# Altium schematic symbol library CM4 IO_V1.10_Library.SchLib: 153 symbols (part 1 of 6)
Pins are listed as number, name and electrical type; pins without a type are passive.

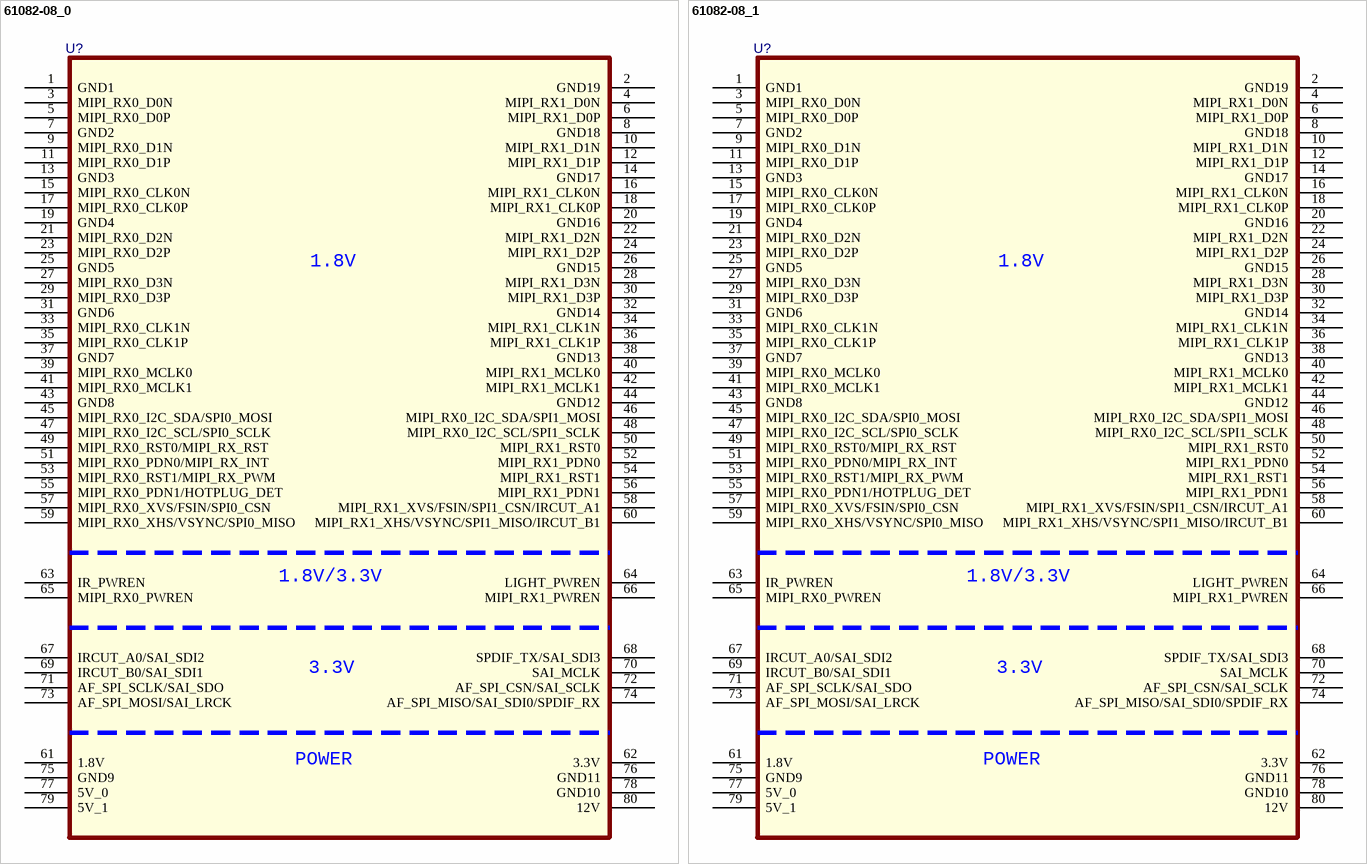
[diagram p0: symbols 61082-08_0 to 61082-08_1]

## 61082-08_0
designator U?
pins: 1 GND1, 2 GND19, 3 MIPI_RX0_D0N, 4 MIPI_RX1_D0N, 5 MIPI_RX0_D0P, 6 MIPI_RX1_D0P, 7 GND2, 8 GND18, 9 MIPI_RX0_D1N, 10 MIPI_RX1_D1N, 11 MIPI_RX0_D1P, 12 MIPI_RX1_D1P, 13 GND3, 14 GND17, 15 MIPI_RX0_CLK0N, 16 MIPI_RX1_CLK0N, 17 MIPI_RX0_CLK0P, 18 MIPI_RX1_CLK0P, 19 GND4, 20 GND16, 21 MIPI_RX0_D2N, 22 MIPI_RX1_D2N, 23 MIPI_RX0_D2P, 24 MIPI_RX1_D2P, 25 GND5, 26 GND15, 27 MIPI_RX0_D3N, 28 MIPI_RX1_D3N, 29 MIPI_RX0_D3P, 30 MIPI_RX1_D3P, 31 GND6, 32 GND14, 33 MIPI_RX0_CLK1N, 34 MIPI_RX1_CLK1N, 35 MIPI_RX0_CLK1P, 36 MIPI_RX1_CLK1P, 37 GND7, 38 GND13, 39 MIPI_RX0_MCLK0, 40 MIPI_RX1_MCLK0, 41 MIPI_RX0_MCLK1, 42 MIPI_RX1_MCLK1, 43 GND8, 44 GND12, 45 MIPI_RX0_I2C_SDA/SPI0_MOSI, 46 MIPI_RX0_I2C_SDA/SPI1_MOSI, 47 MIPI_RX0_I2C_SCL/SPI0_SCLK, 48 MIPI_RX0_I2C_SCL/SPI1_SCLK, 49 MIPI_RX0_RST0/MIPI_RX_RST, 50 MIPI_RX1_RST0, 51 MIPI_RX0_PDN0/MIPI_RX_INT, 52 MIPI_RX1_PDN0, 53 MIPI_RX0_RST1/MIPI_RX_PWM, 54 MIPI_RX1_RST1, 55 MIPI_RX0_PDN1/HOTPLUG_DET, 56 MIPI_RX1_PDN1, 57 MIPI_RX0_XVS/FSIN/SPI0_CSN, 58 MIPI_RX1_XVS/FSIN/SPI1_CSN/IRCUT_A1, 59 MIPI_RX0_XHS/VSYNC/SPI0_MISO, 60 MIPI_RX1_XHS/VSYNC/SPI1_MISO/IRCUT_B1, 61 1.8V, 62 3.3V, 63 IR_PWREN, 64 LIGHT_PWREN, 65 MIPI_RX0_PWREN, 66 MIPI_RX1_PWREN, 67 IRCUT_A0/SAI_SDI2, 68 SPDIF_TX/SAI_SDI3, 69 IRCUT_B0/SAI_SDI1, 70 SAI_MCLK, 71 AF_SPI_SCLK/SAI_SDO, 72 AF_SPI_CSN/SAI_SCLK, 73 AF_SPI_MOSI/SAI_LRCK, 74 AF_SPI_MISO/SAI_SDI0/SPDIF_RX, 75 GND9, 76 GND11, 77 5V_0, 78 GND10, 79 5V_1, 80 12V
text: 1.8V/3.3V; POWER

## 61082-08_1
designator U?
pins: 1 GND1, 2 GND19, 3 MIPI_RX0_D0N, 4 MIPI_RX1_D0N, 5 MIPI_RX0_D0P, 6 MIPI_RX1_D0P, 7 GND2, 8 GND18, 9 MIPI_RX0_D1N, 10 MIPI_RX1_D1N, 11 MIPI_RX0_D1P, 12 MIPI_RX1_D1P, 13 GND3, 14 GND17, 15 MIPI_RX0_CLK0N, 16 MIPI_RX1_CLK0N, 17 MIPI_RX0_CLK0P, 18 MIPI_RX1_CLK0P, 19 GND4, 20 GND16, 21 MIPI_RX0_D2N, 22 MIPI_RX1_D2N, 23 MIPI_RX0_D2P, 24 MIPI_RX1_D2P, 25 GND5, 26 GND15, 27 MIPI_RX0_D3N, 28 MIPI_RX1_D3N, 29 MIPI_RX0_D3P, 30 MIPI_RX1_D3P, 31 GND6, 32 GND14, 33 MIPI_RX0_CLK1N, 34 MIPI_RX1_CLK1N, 35 MIPI_RX0_CLK1P, 36 MIPI_RX1_CLK1P, 37 GND7, 38 GND13, 39 MIPI_RX0_MCLK0, 40 MIPI_RX1_MCLK0, 41 MIPI_RX0_MCLK1, 42 MIPI_RX1_MCLK1, 43 GND8, 44 GND12, 45 MIPI_RX0_I2C_SDA/SPI0_MOSI, 46 MIPI_RX0_I2C_SDA/SPI1_MOSI, 47 MIPI_RX0_I2C_SCL/SPI0_SCLK, 48 MIPI_RX0_I2C_SCL/SPI1_SCLK, 49 MIPI_RX0_RST0/MIPI_RX_RST, 50 MIPI_RX1_RST0, 51 MIPI_RX0_PDN0/MIPI_RX_INT, 52 MIPI_RX1_PDN0, 53 MIPI_RX0_RST1/MIPI_RX_PWM, 54 MIPI_RX1_RST1, 55 MIPI_RX0_PDN1/HOTPLUG_DET, 56 MIPI_RX1_PDN1, 57 MIPI_RX0_XVS/FSIN/SPI0_CSN, 58 MIPI_RX1_XVS/FSIN/SPI1_CSN/IRCUT_A1, 59 MIPI_RX0_XHS/VSYNC/SPI0_MISO, 60 MIPI_RX1_XHS/VSYNC/SPI1_MISO/IRCUT_B1, 61 1.8V, 62 3.3V, 63 IR_PWREN, 64 LIGHT_PWREN, 65 MIPI_RX0_PWREN, 66 MIPI_RX1_PWREN, 67 IRCUT_A0/SAI_SDI2, 68 SPDIF_TX/SAI_SDI3, 69 IRCUT_B0/SAI_SDI1, 70 SAI_MCLK, 71 AF_SPI_SCLK/SAI_SDO, 72 AF_SPI_CSN/SAI_SCLK, 73 AF_SPI_MOSI/SAI_LRCK, 74 AF_SPI_MISO/SAI_SDI0/SPDIF_RX, 75 GND9, 76 GND11, 77 5V_0, 78 GND10, 79 5V_1, 80 12V
text: 1.8V/3.3V; POWER

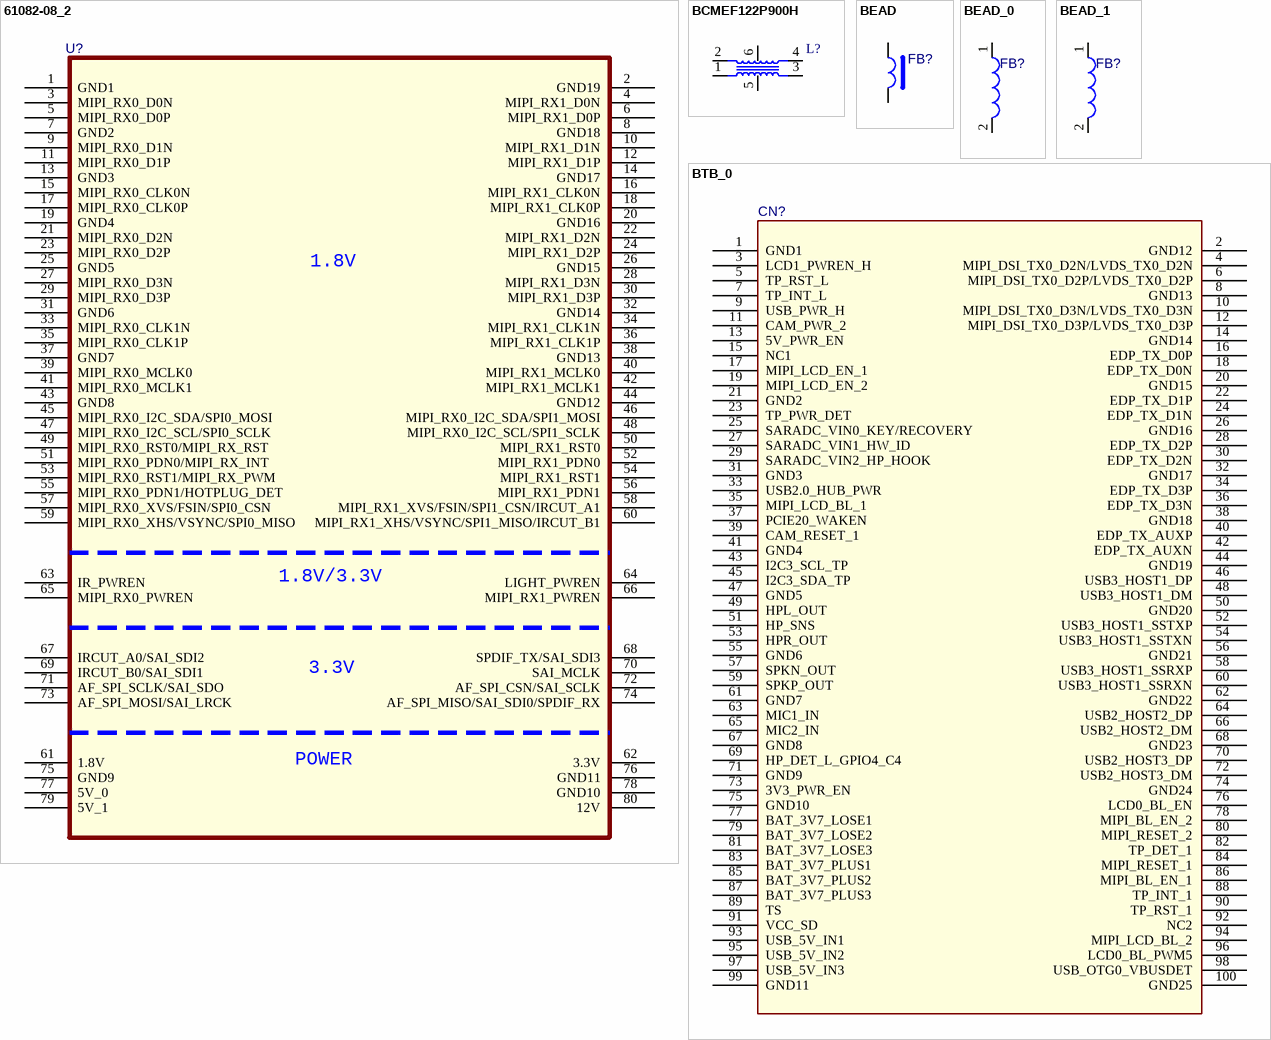
[diagram p1: symbols 61082-08_2 to BTB_0]

## 61082-08_2
designator U?
pins: 1 GND1, 2 GND19, 3 MIPI_RX0_D0N, 4 MIPI_RX1_D0N, 5 MIPI_RX0_D0P, 6 MIPI_RX1_D0P, 7 GND2, 8 GND18, 9 MIPI_RX0_D1N, 10 MIPI_RX1_D1N, 11 MIPI_RX0_D1P, 12 MIPI_RX1_D1P, 13 GND3, 14 GND17, 15 MIPI_RX0_CLK0N, 16 MIPI_RX1_CLK0N, 17 MIPI_RX0_CLK0P, 18 MIPI_RX1_CLK0P, 19 GND4, 20 GND16, 21 MIPI_RX0_D2N, 22 MIPI_RX1_D2N, 23 MIPI_RX0_D2P, 24 MIPI_RX1_D2P, 25 GND5, 26 GND15, 27 MIPI_RX0_D3N, 28 MIPI_RX1_D3N, 29 MIPI_RX0_D3P, 30 MIPI_RX1_D3P, 31 GND6, 32 GND14, 33 MIPI_RX0_CLK1N, 34 MIPI_RX1_CLK1N, 35 MIPI_RX0_CLK1P, 36 MIPI_RX1_CLK1P, 37 GND7, 38 GND13, 39 MIPI_RX0_MCLK0, 40 MIPI_RX1_MCLK0, 41 MIPI_RX0_MCLK1, 42 MIPI_RX1_MCLK1, 43 GND8, 44 GND12, 45 MIPI_RX0_I2C_SDA/SPI0_MOSI, 46 MIPI_RX0_I2C_SDA/SPI1_MOSI, 47 MIPI_RX0_I2C_SCL/SPI0_SCLK, 48 MIPI_RX0_I2C_SCL/SPI1_SCLK, 49 MIPI_RX0_RST0/MIPI_RX_RST, 50 MIPI_RX1_RST0, 51 MIPI_RX0_PDN0/MIPI_RX_INT, 52 MIPI_RX1_PDN0, 53 MIPI_RX0_RST1/MIPI_RX_PWM, 54 MIPI_RX1_RST1, 55 MIPI_RX0_PDN1/HOTPLUG_DET, 56 MIPI_RX1_PDN1, 57 MIPI_RX0_XVS/FSIN/SPI0_CSN, 58 MIPI_RX1_XVS/FSIN/SPI1_CSN/IRCUT_A1, 59 MIPI_RX0_XHS/VSYNC/SPI0_MISO, 60 MIPI_RX1_XHS/VSYNC/SPI1_MISO/IRCUT_B1, 61 1.8V, 62 3.3V, 63 IR_PWREN, 64 LIGHT_PWREN, 65 MIPI_RX0_PWREN, 66 MIPI_RX1_PWREN, 67 IRCUT_A0/SAI_SDI2, 68 SPDIF_TX/SAI_SDI3, 69 IRCUT_B0/SAI_SDI1, 70 SAI_MCLK, 71 AF_SPI_SCLK/SAI_SDO, 72 AF_SPI_CSN/SAI_SCLK, 73 AF_SPI_MOSI/SAI_LRCK, 74 AF_SPI_MISO/SAI_SDI0/SPDIF_RX, 75 GND9, 76 GND11, 77 5V_0, 78 GND10, 79 5V_1, 80 12V
text: 1.8V/3.3V; POWER

## BCMEF122P900H
designator L?
footprint CML_SM6_0D6_1D5
pins: 1 R1, 2 R2, 3 R4, 4 R3, 5, 6

## BEAD
designator FB?
pins: 1, 2

## BEAD_0
designator FB?
pins: 1, 2

## BEAD_1
designator FB?
pins: 1, 2

## BTB_0
designator CN?
pins: 1 GND1, 2 GND12, 3 LCD1_PWREN_H, 4 MIPI_DSI_TX0_D2N/LVDS_TX0_D2N, 5 TP_RST_L, 6 MIPI_DSI_TX0_D2P/LVDS_TX0_D2P, 7 TP_INT_L, 8 GND13, 9 USB_PWR_H, 10 MIPI_DSI_TX0_D3N/LVDS_TX0_D3N, 11 CAM_PWR_2, 12 MIPI_DSI_TX0_D3P/LVDS_TX0_D3P, 13 5V_PWR_EN, 14 GND14, 15 NC1, 16 EDP_TX_D0P, 17 MIPI_LCD_EN_1, 18 EDP_TX_D0N, 19 MIPI_LCD_EN_2, 20 GND15, 21 GND2, 22 EDP_TX_D1P, 23 TP_PWR_DET, 24 EDP_TX_D1N, 25 SARADC_VIN0_KEY/RECOVERY, 26 GND16, 27 SARADC_VIN1_HW_ID, 28 EDP_TX_D2P, 29 SARADC_VIN2_HP_HOOK, 30 EDP_TX_D2N, 31 GND3, 32 GND17, 33 USB2.0_HUB_PWR, 34 EDP_TX_D3P, 35 MIPI_LCD_BL_1, 36 EDP_TX_D3N, 37 PCIE20_WAKEN, 38 GND18, 39 CAM_RESET_1, 40 EDP_TX_AUXP, 41 GND4, 42 EDP_TX_AUXN, 43 I2C3_SCL_TP, 44 GND19, 45 I2C3_SDA_TP, 46 USB3_HOST1_DP, 47 GND5, 48 USB3_HOST1_DM, 49 HPL_OUT, 50 GND20, 51 HP_SNS, 52 USB3_HOST1_SSTXP, 53 HPR_OUT, 54 USB3_HOST1_SSTXN, 55 GND6, 56 GND21, 57 SPKN_OUT, 58 USB3_HOST1_SSRXP, 59 SPKP_OUT, 60 USB3_HOST1_SSRXN, 61 GND7, 62 GND22, 63 MIC1_IN, 64 USB2_HOST2_DP, 65 MIC2_IN, 66 USB2_HOST2_DM, 67 GND8, 68 GND23, 69 HP_DET_L_GPIO4_C4, 70 USB2_HOST3_DP, 71 GND9, 72 USB2_HOST3_DM, 73 3V3_PWR_EN, 74 GND24, 75 GND10, 76 LCD0_BL_EN, 77 BAT_3V7_LOSE1, 78 MIPI_BL_EN_2, 79 BAT_3V7_LOSE2, 80 MIPI_RESET_2, 81 BAT_3V7_LOSE3, 82 TP_DET_1, 83 BAT_3V7_PLUS1, 84 MIPI_RESET_1, 85 BAT_3V7_PLUS2, 86 MIPI_BL_EN_1, 87 BAT_3V7_PLUS3, 88 TP_INT_1, 89 TS, 90 TP_RST_1, 91 VCC_SD, 92 NC2, 93 USB_5V_IN1, 94 MIPI_LCD_BL_2, 95 USB_5V_IN2, 96 LCD0_BL_PWM5, 97 USB_5V_IN3, 98 USB_OTG0_VBUSDET, 99 GND11, 100 GND25

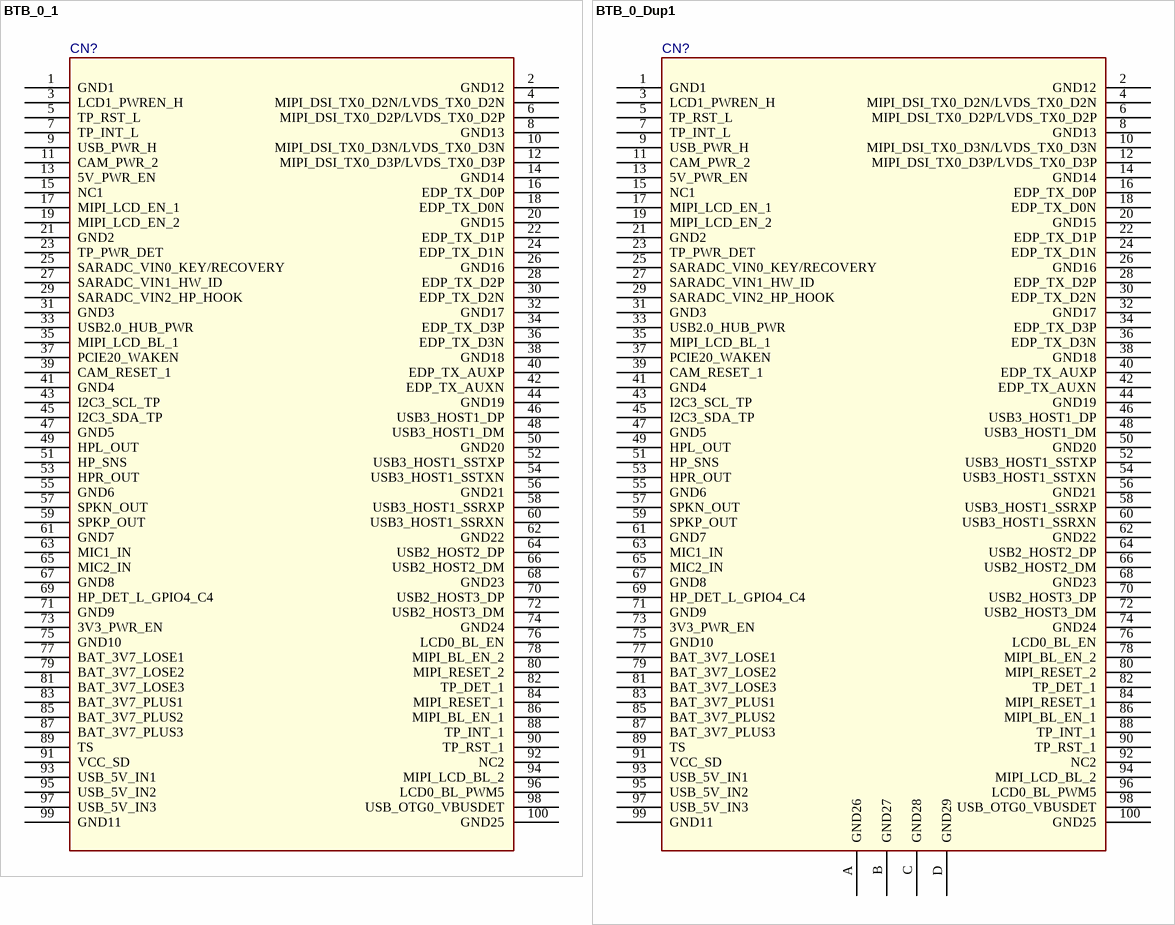
[diagram p2: symbols BTB_0_1 to BTB_0_Dup1]

## BTB_0_1
designator CN?
pins: 1 GND1, 2 GND12, 3 LCD1_PWREN_H, 4 MIPI_DSI_TX0_D2N/LVDS_TX0_D2N, 5 TP_RST_L, 6 MIPI_DSI_TX0_D2P/LVDS_TX0_D2P, 7 TP_INT_L, 8 GND13, 9 USB_PWR_H, 10 MIPI_DSI_TX0_D3N/LVDS_TX0_D3N, 11 CAM_PWR_2, 12 MIPI_DSI_TX0_D3P/LVDS_TX0_D3P, 13 5V_PWR_EN, 14 GND14, 15 NC1, 16 EDP_TX_D0P, 17 MIPI_LCD_EN_1, 18 EDP_TX_D0N, 19 MIPI_LCD_EN_2, 20 GND15, 21 GND2, 22 EDP_TX_D1P, 23 TP_PWR_DET, 24 EDP_TX_D1N, 25 SARADC_VIN0_KEY/RECOVERY, 26 GND16, 27 SARADC_VIN1_HW_ID, 28 EDP_TX_D2P, 29 SARADC_VIN2_HP_HOOK, 30 EDP_TX_D2N, 31 GND3, 32 GND17, 33 USB2.0_HUB_PWR, 34 EDP_TX_D3P, 35 MIPI_LCD_BL_1, 36 EDP_TX_D3N, 37 PCIE20_WAKEN, 38 GND18, 39 CAM_RESET_1, 40 EDP_TX_AUXP, 41 GND4, 42 EDP_TX_AUXN, 43 I2C3_SCL_TP, 44 GND19, 45 I2C3_SDA_TP, 46 USB3_HOST1_DP, 47 GND5, 48 USB3_HOST1_DM, 49 HPL_OUT, 50 GND20, 51 HP_SNS, 52 USB3_HOST1_SSTXP, 53 HPR_OUT, 54 USB3_HOST1_SSTXN, 55 GND6, 56 GND21, 57 SPKN_OUT, 58 USB3_HOST1_SSRXP, 59 SPKP_OUT, 60 USB3_HOST1_SSRXN, 61 GND7, 62 GND22, 63 MIC1_IN, 64 USB2_HOST2_DP, 65 MIC2_IN, 66 USB2_HOST2_DM, 67 GND8, 68 GND23, 69 HP_DET_L_GPIO4_C4, 70 USB2_HOST3_DP, 71 GND9, 72 USB2_HOST3_DM, 73 3V3_PWR_EN, 74 GND24, 75 GND10, 76 LCD0_BL_EN, 77 BAT_3V7_LOSE1, 78 MIPI_BL_EN_2, 79 BAT_3V7_LOSE2, 80 MIPI_RESET_2, 81 BAT_3V7_LOSE3, 82 TP_DET_1, 83 BAT_3V7_PLUS1, 84 MIPI_RESET_1, 85 BAT_3V7_PLUS2, 86 MIPI_BL_EN_1, 87 BAT_3V7_PLUS3, 88 TP_INT_1, 89 TS, 90 TP_RST_1, 91 VCC_SD, 92 NC2, 93 USB_5V_IN1, 94 MIPI_LCD_BL_2, 95 USB_5V_IN2, 96 LCD0_BL_PWM5, 97 USB_5V_IN3, 98 USB_OTG0_VBUSDET, 99 GND11, 100 GND25

## BTB_0_Dup1
designator CN?
pins: 1 GND1, 2 GND12, 3 LCD1_PWREN_H, 4 MIPI_DSI_TX0_D2N/LVDS_TX0_D2N, 5 TP_RST_L, 6 MIPI_DSI_TX0_D2P/LVDS_TX0_D2P, 7 TP_INT_L, 8 GND13, 9 USB_PWR_H, 10 MIPI_DSI_TX0_D3N/LVDS_TX0_D3N, 11 CAM_PWR_2, 12 MIPI_DSI_TX0_D3P/LVDS_TX0_D3P, 13 5V_PWR_EN, 14 GND14, 15 NC1, 16 EDP_TX_D0P, 17 MIPI_LCD_EN_1, 18 EDP_TX_D0N, 19 MIPI_LCD_EN_2, 20 GND15, 21 GND2, 22 EDP_TX_D1P, 23 TP_PWR_DET, 24 EDP_TX_D1N, 25 SARADC_VIN0_KEY/RECOVERY, 26 GND16, 27 SARADC_VIN1_HW_ID, 28 EDP_TX_D2P, 29 SARADC_VIN2_HP_HOOK, 30 EDP_TX_D2N, 31 GND3, 32 GND17, 33 USB2.0_HUB_PWR, 34 EDP_TX_D3P, 35 MIPI_LCD_BL_1, 36 EDP_TX_D3N, 37 PCIE20_WAKEN, 38 GND18, 39 CAM_RESET_1, 40 EDP_TX_AUXP, 41 GND4, 42 EDP_TX_AUXN, 43 I2C3_SCL_TP, 44 GND19, 45 I2C3_SDA_TP, 46 USB3_HOST1_DP, 47 GND5, 48 USB3_HOST1_DM, 49 HPL_OUT, 50 GND20, 51 HP_SNS, 52 USB3_HOST1_SSTXP, 53 HPR_OUT, 54 USB3_HOST1_SSTXN, 55 GND6, 56 GND21, 57 SPKN_OUT, 58 USB3_HOST1_SSRXP, 59 SPKP_OUT, 60 USB3_HOST1_SSRXN, 61 GND7, 62 GND22, 63 MIC1_IN, 64 USB2_HOST2_DP, 65 MIC2_IN, 66 USB2_HOST2_DM, 67 GND8, 68 GND23, 69 HP_DET_L_GPIO4_C4, 70 USB2_HOST3_DP, 71 GND9, 72 USB2_HOST3_DM, 73 3V3_PWR_EN, 74 GND24, 75 GND10, 76 LCD0_BL_EN, 77 BAT_3V7_LOSE1, 78 MIPI_BL_EN_2, 79 BAT_3V7_LOSE2, 80 MIPI_RESET_2, 81 BAT_3V7_LOSE3, 82 TP_DET_1, 83 BAT_3V7_PLUS1, 84 MIPI_RESET_1, 85 BAT_3V7_PLUS2, 86 MIPI_BL_EN_1, 87 BAT_3V7_PLUS3, 88 TP_INT_1, 89 TS, 90 TP_RST_1, 91 VCC_SD, 92 NC2, 93 USB_5V_IN1, 94 MIPI_LCD_BL_2, 95 USB_5V_IN2, 96 LCD0_BL_PWM5, 97 USB_5V_IN3, 98 USB_OTG0_VBUSDET, 99 GND11, 100 GND25, A GND26, B GND27, C GND28, D GND29

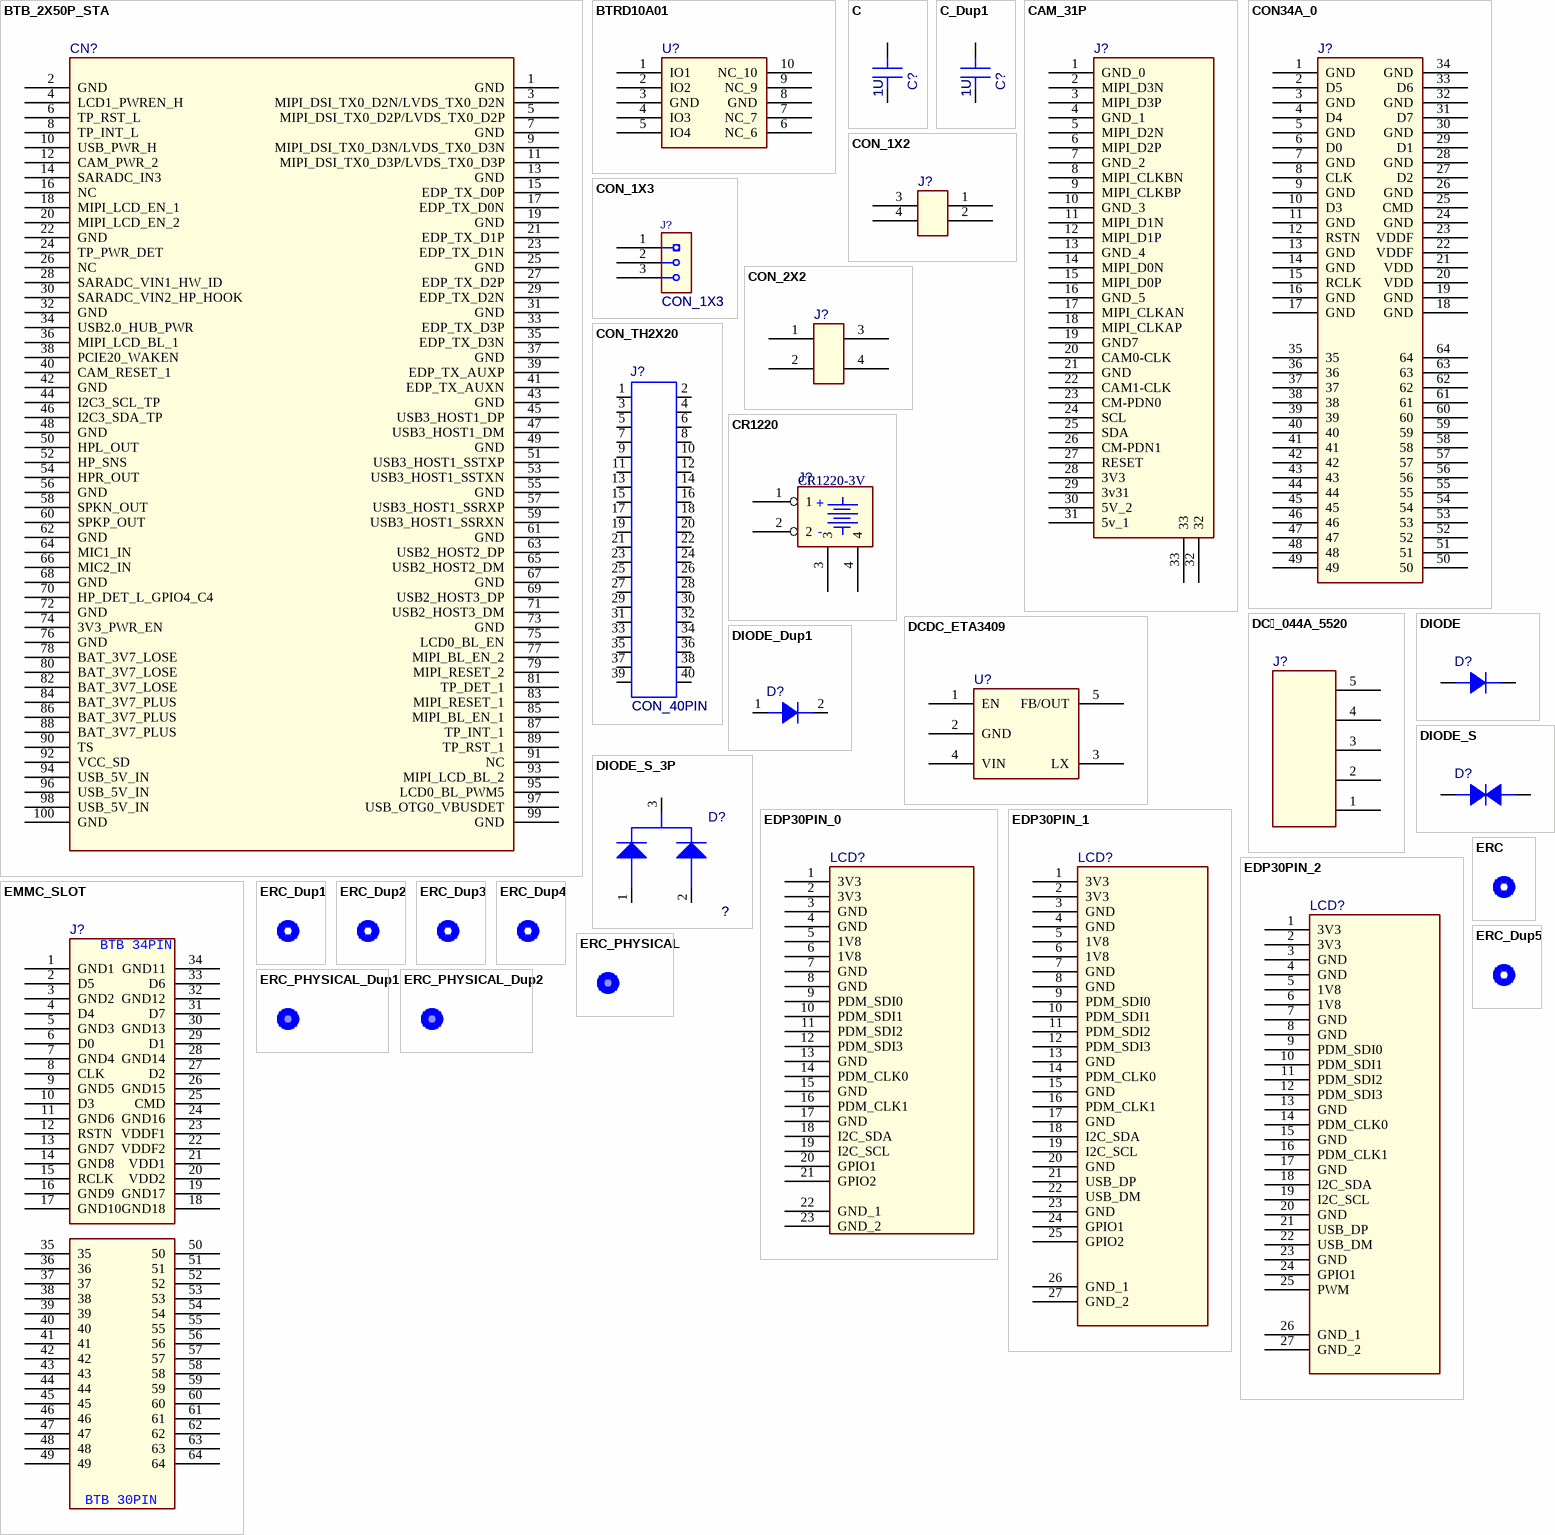
[diagram p3: symbols BTB_2X50P_STA to ERC_PHYSICAL_Dup2]

## BTB_2X50P_STA
designator CN?
pins: 1 GND, 2 GND, 3 MIPI_DSI_TX0_D2N/LVDS_TX0_D2N, 4 LCD1_PWREN_H, 5 MIPI_DSI_TX0_D2P/LVDS_TX0_D2P, 6 TP_RST_L, 7 GND, 8 TP_INT_L, 9 MIPI_DSI_TX0_D3N/LVDS_TX0_D3N, 10 USB_PWR_H, 11 MIPI_DSI_TX0_D3P/LVDS_TX0_D3P, 12 CAM_PWR_2, 13 GND, 14 SARADC_IN3, 15 EDP_TX_D0P, 16 NC, 17 EDP_TX_D0N, 18 MIPI_LCD_EN_1, 19 GND, 20 MIPI_LCD_EN_2, 21 EDP_TX_D1P, 22 GND, 23 EDP_TX_D1N, 24 TP_PWR_DET, 25 GND, 26 NC, 27 EDP_TX_D2P, 28 SARADC_VIN1_HW_ID, 29 EDP_TX_D2N, 30 SARADC_VIN2_HP_HOOK, 31 GND, 32 GND, 33 EDP_TX_D3P, 34 USB2.0_HUB_PWR, 35 EDP_TX_D3N, 36 MIPI_LCD_BL_1, 37 GND, 38 PCIE20_WAKEN, 39 EDP_TX_AUXP, 40 CAM_RESET_1, 41 EDP_TX_AUXN, 42 GND, 43 GND, 44 I2C3_SCL_TP, 45 USB3_HOST1_DP, 46 I2C3_SDA_TP, 47 USB3_HOST1_DM, 48 GND, 49 GND, 50 HPL_OUT, 51 USB3_HOST1_SSTXP, 52 HP_SNS, 53 USB3_HOST1_SSTXN, 54 HPR_OUT, 55 GND, 56 GND, 57 USB3_HOST1_SSRXP, 58 SPKN_OUT, 59 USB3_HOST1_SSRXN, 60 SPKP_OUT, 61 GND, 62 GND, 63 USB2_HOST2_DP, 64 MIC1_IN, 65 USB2_HOST2_DM, 66 MIC2_IN, 67 GND, 68 GND, 69 USB2_HOST3_DP, 70 HP_DET_L_GPIO4_C4, 71 USB2_HOST3_DM, 72 GND, 73 GND, 74 3V3_PWR_EN, 75 LCD0_BL_EN, 76 GND, 77 MIPI_BL_EN_2, 78 BAT_3V7_LOSE, 79 MIPI_RESET_2, 80 BAT_3V7_LOSE, 81 TP_DET_1, 82 BAT_3V7_LOSE, 83 MIPI_RESET_1, 84 BAT_3V7_PLUS, 85 MIPI_BL_EN_1, 86 BAT_3V7_PLUS, 87 TP_INT_1, 88 BAT_3V7_PLUS, 89 TP_RST_1, 90 TS, 91 NC, 92 VCC_SD, 93 MIPI_LCD_BL_2, 94 USB_5V_IN, 95 LCD0_BL_PWM5, 96 USB_5V_IN, 97 USB_OTG0_VBUSDET, 98 USB_5V_IN, 99 GND, 100 GND

## BTRD10A01
designator U?
pins: 1 IO1, 2 IO2, 3 GND (power), 4 IO3, 5 IO4, 6 NC_6, 7 NC_7, 8 GND (power), 9 NC_9, 10 NC_10

## C
designator C?, comment 1U
PARTS: 1; OriginalSymbolOrigin: (0,30); PKG_TYPE: CAP2-100-250; LEVEL: STD; PINSWAP: (A,B); Value: 1U
pins: 1 A, 2 B

## C_Dup1
designator C?, comment 1U
PARTS: 1; OriginalSymbolOrigin: (0,30); PKG_TYPE: CAP2-100-250; LEVEL: STD; PINSWAP: (A,B); Value: 1U
pins: 1, 2

## CAM_31P
designator J?
footprint FPC_31P_0d3_LIE
pins: 1 GND_0, 2 MIPI_D3N, 3 MIPI_D3P, 4 GND_1, 5 MIPI_D2N, 6 MIPI_D2P, 7 GND_2, 8 MIPI_CLKBN, 9 MIPI_CLKBP, 10 GND_3, 11 MIPI_D1N, 12 MIPI_D1P, 13 GND_4, 14 MIPI_D0N, 15 MIPI_D0P, 16 GND_5, 17 MIPI_CLKAN, 18 MIPI_CLKAP, 19 GND7, 20 CAM0-CLK, 21 GND, 22 CAM1-CLK, 23 CM-PDN0, 24 SCL, 25 SDA, 26 CM-PDN1, 27 RESET, 28 3V3, 29 3v31, 30 5V_2, 31 5v_1, 32, 33

## CON34A_0
designator J?
pins: 1 GND, 2 D5, 3 GND, 4 D4, 5 GND, 6 D0, 7 GND, 8 CLK, 9 GND, 10 D3, 11 GND, 12 RSTN, 13 GND, 14 GND, 15 RCLK, 16 GND, 17 GND, 18 GND, 19 GND, 20 VDD, 21 VDD, 22 VDDF, 23 VDDF, 24 GND, 25 CMD, 26 GND, 27 D2, 28 GND, 29 D1, 30 GND, 31 D7, 32 GND, 33 D6, 34 GND, 35, 36, 37, 38, 39, 40, 41, 42, 43, 44, 45, 46, 47, 48, 49, 50, 51, 52, 53, 54, 55, 56, 57, 58, 59, 60, 61, 62, 63, 64

## CON_1X2
designator J?
pins: 1, 2, 3, 4

## CON_1X3
designator J?
OriginalSymbolOrigin: (-50,50); ANGLE: ?; ASSEMBLY: ?; GENDER: ?; LATCHING: ?; MAX_CURRENT: ?; MAX_VOLTAGE: ?; NV_NAME: ?; NV_PN: ?; PACK_TYPE: ?; PATH: ?; PITCH: ?; PLACEMENT_NOTE: ?; REFLOW: ?; SHROUDED: ?; SKU: COMMON; Value: CON_1X3
pins: 1, 2, 3

## CON_2X2
designator J?
pins: 1, 2, 3, 4

## CON_TH2X20
designator J?, comment CON_40PIN
OriginalSymbolOrigin: (-100,550); ANGLE: ?; ASSEMBLY: ?; GENDER: ?; LATCHING: ?; MAX_CURRENT: ?; MAX_VOLTAGE: ?; NV_NAME: ?; NV_PN: ?; PACK_TYPE: ?; PATH: ?; PITCH: ?; PLACEMENT_NOTE: ?; REFLOW: ?; SHROUDED: ?; SKU: COMMON; Value: CON_40PIN
footprint CON_TH20X2_2D54_STA
pins: 1 (io), 2 (io), 3 (io), 4 (io), 5 (io), 6 (io), 7 (io), 8 (io), 9 (io), 10 (io), 11 (io), 12 (io), 13 (io), 14 (io), 15 (io), 16 (io), 17 (io), 18 (io), 19 (io), 20 (io), 21 (io), 22 (io), 23 (io), 24 (io), 25 (io), 26 (io), 27 (io), 28 (io), 29 (io), 30 (io), 31 (io), 32 (io), 33 (io), 34 (io), 35 (io), 36 (io), 37 (io), 38 (io), 39 (io), 40 (io)

## CR1220
designator J?, comment CR1220-3V
Value: CR1220-3V
footprint BAT_SM2_12X2
pins: 1, 2, 3, 4
text: +; -

## DC_044A_5520
designator J?
pins: 1, 2, 3, 4, 5

## DCDC_ETA3409
designator U?
pins: 1 EN, 2 GND, 3 LX, 4 VIN, 5 FB/OUT

## DIODE
designator D?
pins: 1 A, 2 K

## DIODE_Dup1
designator D?
pins: 1 A, 2 K

## DIODE_S
designator D?
pins: 1 ANODE, 2 CATHODE

## DIODE_S_3P
designator D?, comment ?
Value: ?
footprint 23ACA
pins: 1 A1, 2 A2, 3 C

## EDP30PIN_0
designator LCD?
footprint EDP30PIN
pins: 1 3V3, 2 3V3, 3 GND, 4 GND, 5 1V8, 6 1V8, 7 GND, 8 GND, 9 PDM_SDI0, 10 PDM_SDI1, 11 PDM_SDI2, 12 PDM_SDI3, 13 GND, 14 PDM_CLK0, 15 GND, 16 PDM_CLK1, 17 GND, 18 I2C_SDA, 19 I2C_SCL, 20 GPIO1, 21 GPIO2, 22 GND_1, 23 GND_2

## EDP30PIN_1
designator LCD?
footprint EDP30PIN
pins: 1 3V3, 2 3V3, 3 GND, 4 GND, 5 1V8, 6 1V8, 7 GND, 8 GND, 9 PDM_SDI0, 10 PDM_SDI1, 11 PDM_SDI2, 12 PDM_SDI3, 13 GND, 14 PDM_CLK0, 15 GND, 16 PDM_CLK1, 17 GND, 18 I2C_SDA, 19 I2C_SCL, 20 GND, 21 USB_DP, 22 USB_DM, 23 GND, 24 GPIO1, 25 GPIO2, 26 GND_1, 27 GND_2

## EDP30PIN_2
designator LCD?
footprint EDP30PIN
pins: 1 3V3, 2 3V3, 3 GND, 4 GND, 5 1V8, 6 1V8, 7 GND, 8 GND, 9 PDM_SDI0, 10 PDM_SDI1, 11 PDM_SDI2, 12 PDM_SDI3, 13 GND, 14 PDM_CLK0, 15 GND, 16 PDM_CLK1, 17 GND, 18 I2C_SDA, 19 I2C_SCL, 20 GND, 21 USB_DP, 22 USB_DM, 23 GND, 24 GPIO1, 25 PWM, 26 GND_1, 27 GND_2

## EMMC_SLOT
designator J?
footprint EMMC_SLOT_30P_34P
pins: 1 GND1, 2 D5, 3 GND2, 4 D4, 5 GND3, 6 D0, 7 GND4, 8 CLK, 9 GND5, 10 D3, 11 GND6, 12 RSTN, 13 GND7, 14 GND8, 15 RCLK, 16 GND9, 17 GND10, 18 GND18, 19 GND17, 20 VDD2, 21 VDD1, 22 VDDF2, 23 VDDF1, 24 GND16, 25 CMD, 26 GND15, 27 D2, 28 GND14, 29 D1, 30 GND13, 31 D7, 32 GND12, 33 D6, 34 GND11, 35, 36, 37, 38, 39, 40, 41, 42, 43, 44, 45, 46, 47, 48, 49, 50, 51, 52, 53, 54, 55, 56, 57, 58, 59, 60, 61, 62, 63, 64
text: BTB 34PIN; BTB 30PIN

## ERC
designator *  (value not drawn)  (graphical)

## ERC_Dup1
designator *  (value not drawn)  (graphical)

## ERC_Dup2
designator *  (value not drawn)  (graphical)

## ERC_Dup3
designator *  (value not drawn)  (graphical)

## ERC_Dup4
designator *  (value not drawn)  (graphical)

## ERC_Dup5
designator *  (value not drawn)  (graphical)

## ERC_PHYSICAL
designator *  (value not drawn)  (graphical)

## ERC_PHYSICAL_Dup1
designator *  (value not drawn)  (graphical)

## ERC_PHYSICAL_Dup2
designator *  (value not drawn)  (graphical)

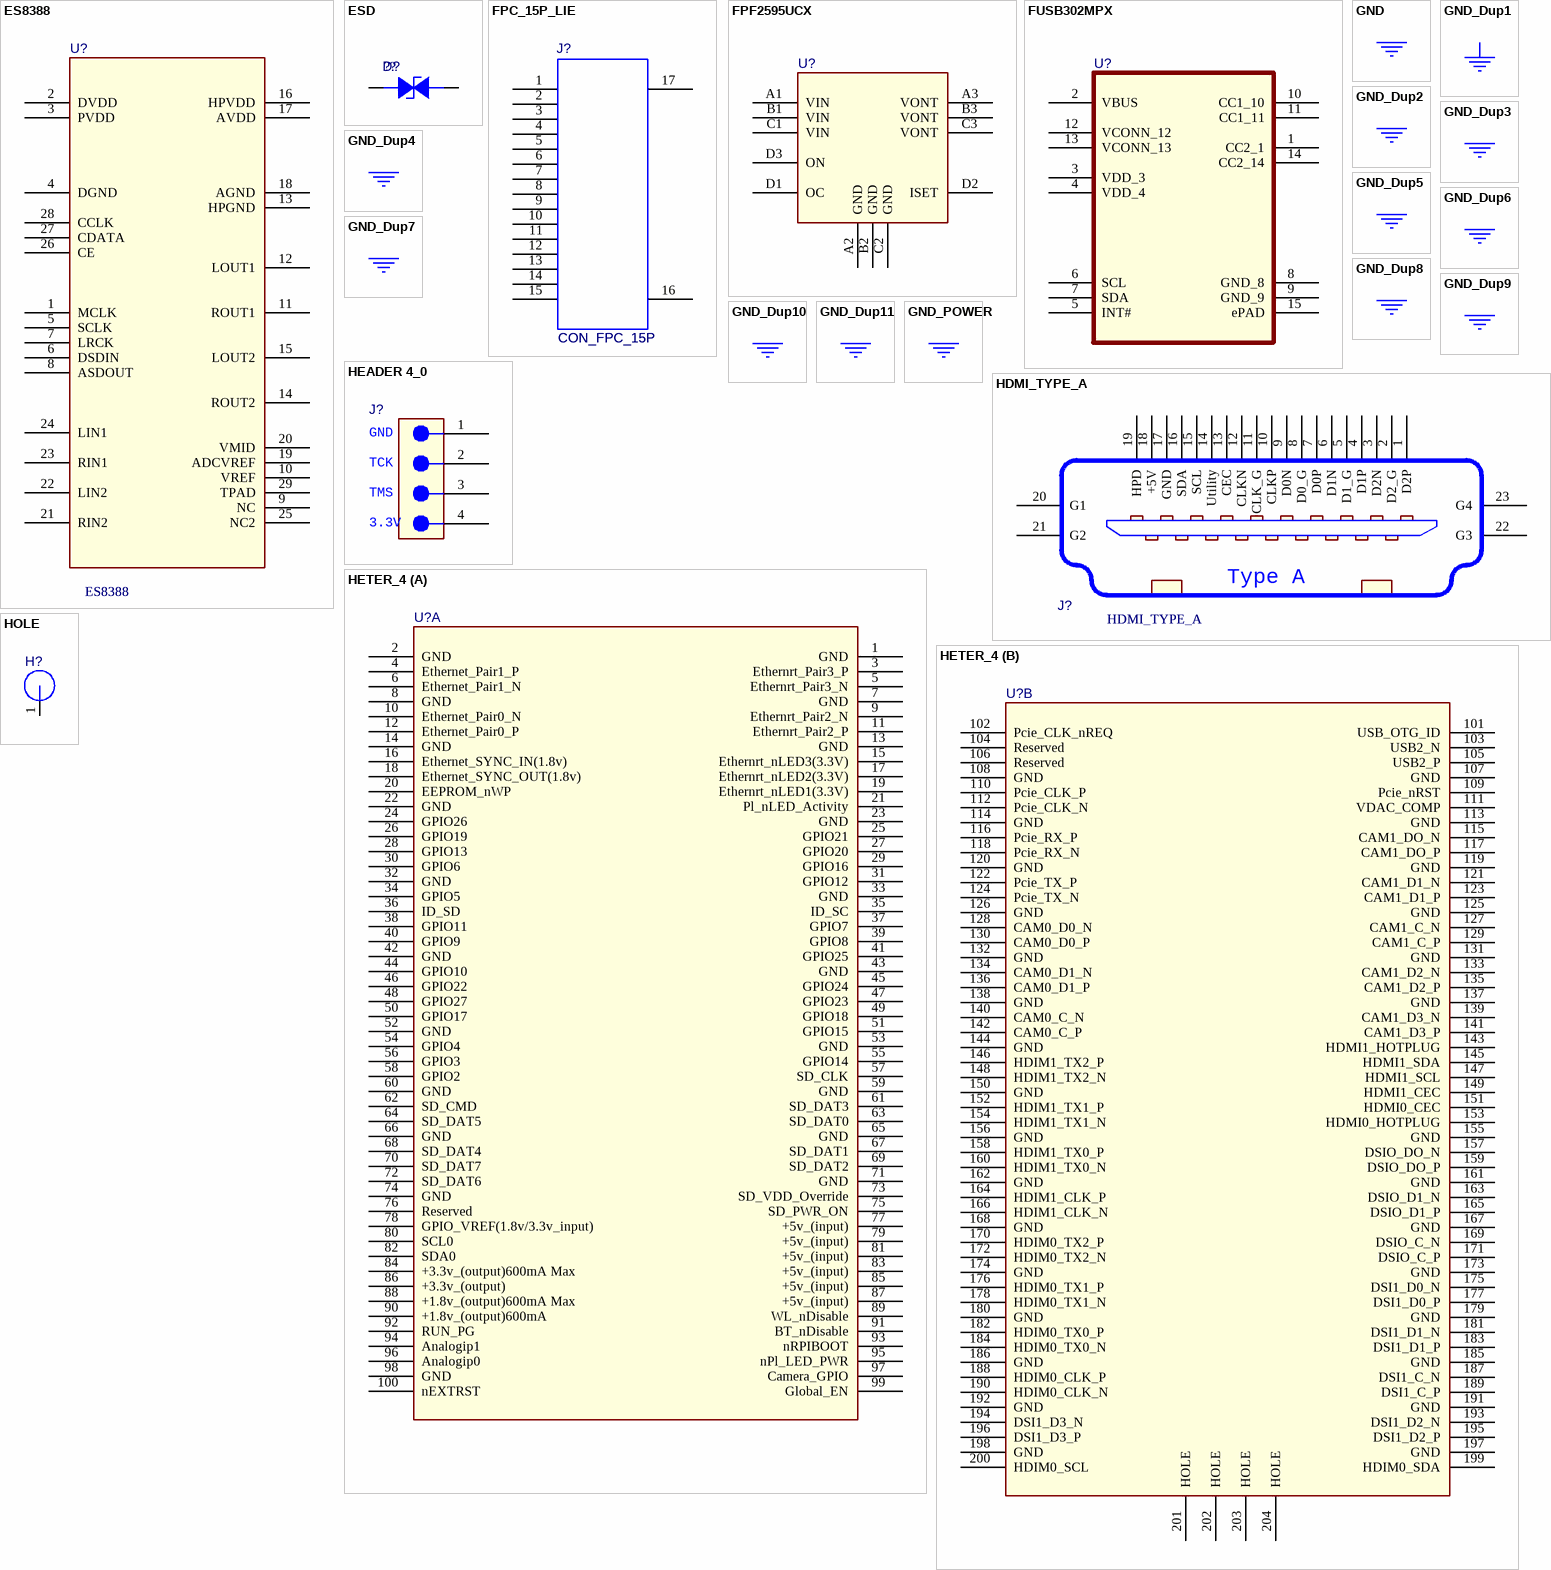
[diagram p4: symbols ES8388 to HOLE]

## ES8388
designator U?
Value: ES8388
footprint QFN28_4X4
pins: 1 MCLK, 2 DVDD, 3 PVDD, 4 DGND, 5 SCLK, 6 DSDIN, 7 LRCK, 8 ASDOUT, 9 NC, 10 VREF, 11 ROUT1, 12 LOUT1, 13 HPGND, 14 ROUT2, 15 LOUT2, 16 HPVDD, 17 AVDD, 18 AGND, 19 ADCVREF, 20 VMID, 21 RIN2, 22 LIN2, 23 RIN1, 24 LIN1, 25 NC2, 26 CE, 27 CDATA, 28 CCLK, 29 TPAD

## ESD
designator D?, comment ??
Parameter: ESD-台舟 ESD5341N-封装 esd0402; ID: DE-E0004; Value: ??
footprint DFN1006-2L
pins: 1 ANODE, 2 CATHODE

## FPC_15P_LIE
designator J?, comment CON_FPC_15P
OriginalSymbolOrigin: (-150,450); ANGLE: ?; ASSEMBLY: ?; EMI_GROUND_TAB: ?; GENDER: ?; LATCHING: ?; MAX_CURRENT: ?; MAX_VOLTAGE: ?; NV_NAME: ?; NV_PN: ?; PACK_TYPE: ?; PATH: ?; PITCH: ?; PLACEMENT_NOTE: ?; REFLOW: ?; SHIELDED: ?; SHROUDED: ?; SKU: COMMON; Value: CON_FPC_15P
footprint FPC_15_1D0_LIE
pins: 1, 2, 3, 4, 5, 6, 7, 8, 9, 10, 11, 12, 13, 14, 15, 16, 17

## FPF2595UCX
designator U?
pins: A1 VIN (power), A2 GND (power), A3 VONT (power), B1 VIN (power), B2 GND (power), B3 VONT (power), C1 VIN (power), C2 GND (power), C3 VONT (power), D1 OC, D2 ISET, D3 ON

## FUSB302MPX
designator U?
pins: 1 CC2_1, 2 VBUS, 3 VDD_3 (power), 4 VDD_4 (power), 5 INT#, 6 SCL, 7 SDA, 8 GND_8 (power), 9 GND_9 (power), 10 CC1_10, 11 CC1_11, 12 VCONN_12, 13 VCONN_13, 14 CC2_14, 15 ePAD (power)

## GND
designator *  (value not drawn)  (graphical)
pins: $PIN0 (power) hidden to $PIN0

## GND_Dup1
designator *  (value not drawn)  (graphical)
OriginalSymbolOrigin: (-10,0); HOTSPOTNAME: GND; SINGAL: GND; NETNAME: GND; PINORDER: GND; DEVICE: GND
pins: $PIN0 (power) hidden to $PIN0

## GND_Dup2
designator *  (value not drawn)  (graphical)
pins: $PIN0 (power) hidden to $PIN0

## GND_Dup3
designator *  (value not drawn)  (graphical)
pins: $PIN0 (power) hidden to $PIN0

## GND_Dup4
designator *  (value not drawn)  (graphical)
pins: $PIN0 (power) hidden to $PIN0

## GND_Dup5
designator *  (value not drawn)  (graphical)
OriginalSymbolOrigin: (-10,0)
pins: $PIN0 (power) hidden to $PIN0

## GND_Dup6
designator *  (value not drawn)  (graphical)
pins: $PIN0 (power) hidden to $PIN0

## GND_Dup7
designator *  (value not drawn)  (graphical)
pins: $PIN0 (power) hidden to $PIN0

## GND_Dup8
designator *  (value not drawn)  (graphical)
pins: $PIN0 (power) hidden to $PIN0

## GND_Dup9
designator *  (value not drawn)  (graphical)
pins: $PIN0 (power) hidden to $PIN0

## GND_Dup10
designator *  (value not drawn)  (graphical)
pins: $PIN0 (power) hidden to $PIN0

## GND_Dup11
designator *  (value not drawn)  (graphical)
pins: $PIN0 (power) hidden to $PIN0

## GND_POWER
designator *  (value not drawn)  (graphical)
pins: GND (power) hidden to GND

## HDMI_TYPE_A
designator J?
Parameter: 连接器-HDMI公母-19P/型号：10029449-001RLF-封装 hdmia19_hdmi_01a; Value: HDMI_TYPE_A
footprint CON_HDMI_TH_19P_STA
pins: 1 D2P, 2 D2_G, 3 D2N, 4 D1P, 5 D1_G, 6 D1N, 7 D0P, 8 D0_G, 9 D0N, 10 CLKP, 11 CLK_G, 12 CLKN, 13 CEC, 14 Utility, 15 SCL, 16 SDA, 17 GND, 18 +5V, 19 HPD, 20 G1, 21 G2, 22 G3, 23 G4
text: Type A

## HEADER 4_0
designator J?
pins: 1, 2 RX, 3, 4
text: GND; TCK; TMS; 3.3V

## HETER_4
designator U?
part A pins: 1 GND, 2 GND, 3 Ethernrt_Pair3_P, 4 Ethernet_Pair1_P, 5 Ethernrt_Pair3_N, 6 Ethernet_Pair1_N, 7 GND, 8 GND, 9 Ethernrt_Pair2_N, 10 Ethernet_Pair0_N, 11 Ethernrt_Pair2_P, 12 Ethernet_Pair0_P, 13 GND, 14 GND, 15 Ethernrt_nLED3(3.3V), 16 Ethernet_SYNC_IN(1.8v), 17 Ethernrt_nLED2(3.3V), 18 Ethernet_SYNC_OUT(1.8v), 19 Ethernrt_nLED1(3.3V), 20 EEPROM_nWP, 21 Pl_nLED_Activity, 22 GND, 23 GND, 24 GPIO26, 25 GPIO21, 26 GPIO19, 27 GPIO20, 28 GPIO13, 29 GPIO16, 30 GPIO6, 31 GPIO12, 32 GND, 33 GND, 34 GPIO5, 35 ID_SC, 36 ID_SD, 37 GPIO7, 38 GPIO11, 39 GPIO8, 40 GPIO9, 41 GPIO25, 42 GND, 43 GND, 44 GPIO10, 45 GPIO24, 46 GPIO22, 47 GPIO23, 48 GPIO27, 49 GPIO18, 50 GPIO17, 51 GPIO15, 52 GND, 53 GND, 54 GPIO4, 55 GPIO14, 56 GPIO3, 57 SD_CLK, 58 GPIO2, 59 GND, 60 GND, 61 SD_DAT3, 62 SD_CMD, 63 SD_DAT0, 64 SD_DAT5, 65 GND, 66 GND, 67 SD_DAT1, 68 SD_DAT4, 69 SD_DAT2, 70 SD_DAT7, 71 GND, 72 SD_DAT6, 73 SD_VDD_Override, 74 GND, 75 SD_PWR_ON, 76 Reserved, 77 +5v_(input), 78 GPIO_VREF(1.8v/3.3v_input), 79 +5v_(input), 80 SCL0, 81 +5v_(input), 82 SDA0, 83 +5v_(input), 84 +3.3v_(output)600mA Max, 85 +5v_(input), 86 +3.3v_(output), 87 +5v_(input), 88 +1.8v_(output)600mA Max, 89 WL_nDisable, 90 +1.8v_(output)600mA , 91 BT_nDisable, 92 RUN_PG, 93 nRPIBOOT, 94 Analogip1, 95 nPl_LED_PWR, 96 Analogip0, 97 Camera_GPIO, 98 GND, 99 Global_EN, 100 nEXTRST
part B pins: 101 USB_OTG_ID, 102 Pcie_CLK_nREQ, 103 USB2_N, 104 Reserved, 105 USB2_P, 106 Reserved, 107 GND, 108 GND, 109 Pcie_nRST, 110 Pcie_CLK_P, 111 VDAC_COMP, 112 Pcie_CLK_N, 113 GND, 114 GND, 115 CAM1_DO_N, 116 Pcie_RX_P, 117 CAM1_DO_P, 118 Pcie_RX_N, 119 GND, 120 GND, 121 CAM1_D1_N, 122 Pcie_TX_P, 123 CAM1_D1_P, 124 Pcie_TX_N, 125 GND, 126 GND, 127 CAM1_C_N, 128 CAM0_D0_N, 129 CAM1_C_P, 130 CAM0_D0_P, 131 GND, 132 GND, 133 CAM1_D2_N, 134 CAM0_D1_N, 135 CAM1_D2_P, 136 CAM0_D1_P, 137 GND, 138 GND, 139 CAM1_D3_N, 140 CAM0_C_N, 141 CAM1_D3_P, 142 CAM0_C_P, 143 HDMI1_HOTPLUG, 144 GND, 145 HDMI1_SDA, 146 HDIM1_TX2_P, 147 HDMI1_SCL, 148 HDIM1_TX2_N, 149 HDMI1_CEC, 150 GND, 151 HDMI0_CEC, 152 HDIM1_TX1_P, 153 HDMI0_HOTPLUG, 154 HDIM1_TX1_N, 155 GND, 156 GND, 157 DSIO_DO_N, 158 HDIM1_TX0_P, 159 DSIO_DO_P, 160 HDIM1_TX0_N, 161 GND, 162 GND, 163 DSIO_D1_N, 164 HDIM1_CLK_P, 165 DSIO_D1_P, 166 HDIM1_CLK_N, 167 GND, 168 GND, 169 DSIO_C_N, 170 HDIM0_TX2_P, 171 DSIO_C_P, 172 HDIM0_TX2_N, 173 GND, 174 GND, 175 DSI1_D0_N, 176 HDIM0_TX1_P, 177 DSI1_D0_P, 178 HDIM0_TX1_N, 179 GND, 180 GND, 181 DSI1_D1_N, 182 HDIM0_TX0_P, 183 DSI1_D1_P, 184 HDIM0_TX0_N, 185 GND, 186 GND, 187 DSI1_C_N, 188 HDIM0_CLK_P, 189 DSI1_C_P, 190 HDIM0_CLK_N, 191 GND, 192 GND, 193 DSI1_D2_N, 194 DSI1_D3_N, 195 DSI1_D2_P, 196 DSI1_D3_P, 197 GND, 198 GND, 199 HDIM0_SDA, 200 HDIM0_SCL, 201 HOLE, 202 HOLE, 203 HOLE, 204 HOLE

## HOLE
designator H?
footprint H3.8MM
pins: 1

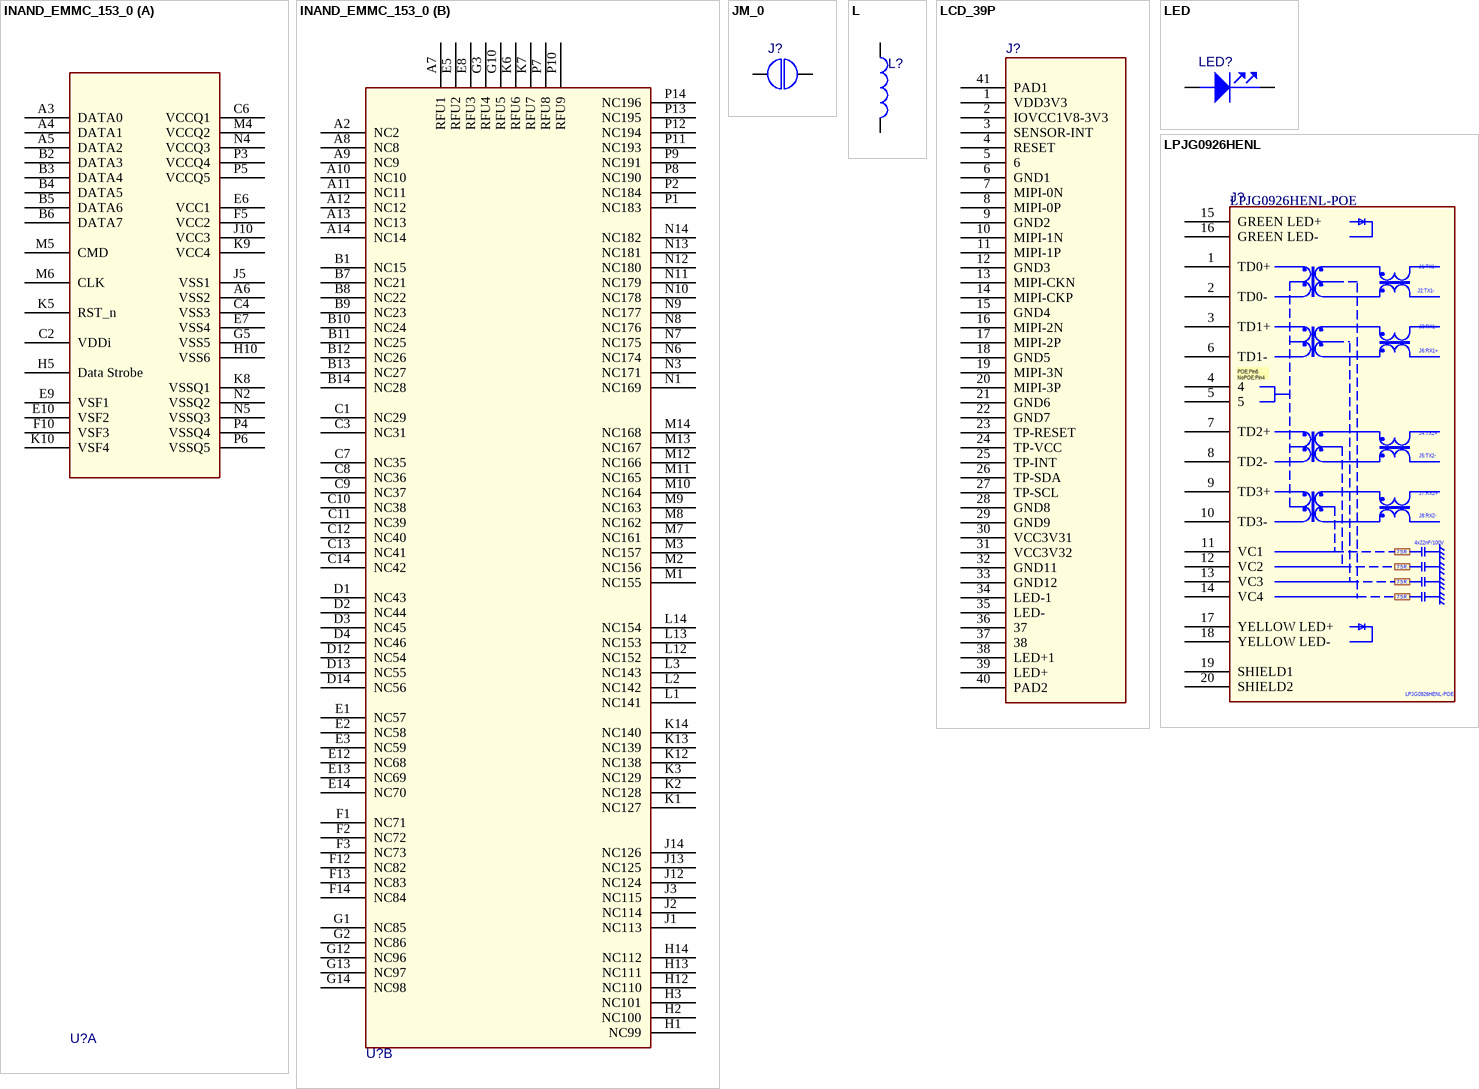
[diagram p5: symbols INAND_EMMC_153_0 to LPJG0926HENL]

## INAND_EMMC_153_0
designator U?
part A pins: A3 DATA0, A4 DATA1, A5 DATA2, A6 VSS2, B2 DATA3, B3 DATA4, B4 DATA5, B5 DATA6, B6 DATA7, C2 VDDi, C4 VSS3, C6 VCCQ1, E6 VCC1, E7 VSS4, E9 VSF1, E10 VSF2, F5 VCC2, F10 VSF3, G5 VSS5, H5 Data Strobe, H10 VSS6, J5 VSS1, J10 VCC3, K5 RST_n, K8 VSSQ1, K9 VCC4, K10 VSF4, M4 VCCQ2, M5 CMD, M6 CLK, N2 VSSQ2, N4 VCCQ3, N5 VSSQ3, P3 VCCQ4, P4 VSSQ4, P5 VCCQ5, P6 VSSQ5
part B pins: A2 NC2, A7 RFU1, A8 NC8, A9 NC9, A10 NC10, A11 NC11, A12 NC12, A13 NC13, A14 NC14, B1 NC15, B7 NC21, B8 NC22, B9 NC23, B10 NC24, B11 NC25, B12 NC26, B13 NC27, B14 NC28, C1 NC29, C3 NC31, C7 NC35, C8 NC36, C9 NC37, C10 NC38, C11 NC39, C12 NC40, C13 NC41, C14 NC42, D1 NC43, D2 NC44, D3 NC45, D4 NC46, D12 NC54, D13 NC55, D14 NC56, E1 NC57, E2 NC58, E3 NC59, E5 RFU2, E8 RFU3, E12 NC68, E13 NC69, E14 NC70, F1 NC71, F2 NC72, F3 NC73, F12 NC82, F13 NC83, F14 NC84, G1 NC85, G2 NC86, G3 RFU4, G10 RFU5, G12 NC96, G13 NC97, G14 NC98, H1 NC99, H2 NC100, H3 NC101, H12 NC110, H13 NC111, H14 NC112, J1 NC113, J2 NC114, J3 NC115, J12 NC124, J13 NC125, J14 NC126, K1 NC127, K2 NC128, K3 NC129, K6 RFU6, K7 RFU7, K12 NC138, K13 NC139, K14 NC140, L1 NC141, L2 NC142, L3 NC143, L12 NC152, L13 NC153, L14 NC154, M1 NC155, M2 NC156, M3 NC157, M7 NC161, M8 NC162, M9 NC163, M10 NC164, M11 NC165, M12 NC166, M13 NC167, M14 NC168, N1 NC169, N3 NC171, N6 NC174, N7 NC175, N8 NC176, N9 NC177, N10 NC178, N11 NC179, N12 NC180, N13 NC181, N14 NC182, P1 NC183, P2 NC184, P7 RFU8, P8 NC190, P9 NC191, P10 RFU9, P11 NC193, P12 NC194, P13 NC195, P14 NC196

## JM_0
designator J?
footprint OPEN
pins: 1, 2

## L
designator L?
pins: 1, 2

## LCD_39P
designator J?
footprint FPC_39P_0D3_LIE
pins: 1 VDD3V3, 2 IOVCC1V8-3V3, 3 SENSOR-INT, 4 RESET, 5 6, 6 GND1, 7 MIPI-0N, 8 MIPI-0P, 9 GND2, 10 MIPI-1N, 11 MIPI-1P, 12 GND3, 13 MIPI-CKN, 14 MIPI-CKP, 15 GND4, 16 MIPI-2N, 17 MIPI-2P, 18 GND5, 19 MIPI-3N, 20 MIPI-3P, 21 GND6, 22 GND7, 23 TP-RESET, 24 TP-VCC, 25 TP-INT, 26 TP-SDA, 27 TP-SCL, 28 GND8, 29 GND9, 30 VCC3V31, 31 VCC3V32, 32 GND11, 33 GND12, 34 LED-1, 35 LED-, 36 37, 37 38, 38 LED+1, 39 LED+, 40 PAD2, 41 PAD1

## LED
designator LED?
pins: 1 ANODE, 2 CATHODE

## LPJG0926HENL
designator J?, comment LPJG0926HENL-POE
Parameter: 连接器-带POE功能的集成变压器RJ45; Value: LPJG0926HENL-POE
footprint RJ45_LED_TH22_LIE
pins: 1 TD0+, 2 TD0-, 3 TD1+, 4, 5, 6 TD1-, 7 TD2+, 8 TD2-, 9 TD3+, 10 TD3-, 11 VC1, 12 VC2, 13 VC3, 14 VC4, 15 GREEN LED+, 16 GREEN LED-, 17 YELLOW LED+, 18 YELLOW LED-, 19 SHIELD1, 20 SHIELD2
text: J1:TX1+; J2:TX1-; J3:RX1+; J6:RX1+; POE:Pin6 / NoPOE:Pin4; J4:TX2+; J5:TX2-; J7:RX2+; J8:RX2-; 4x22nF/100V; 75R

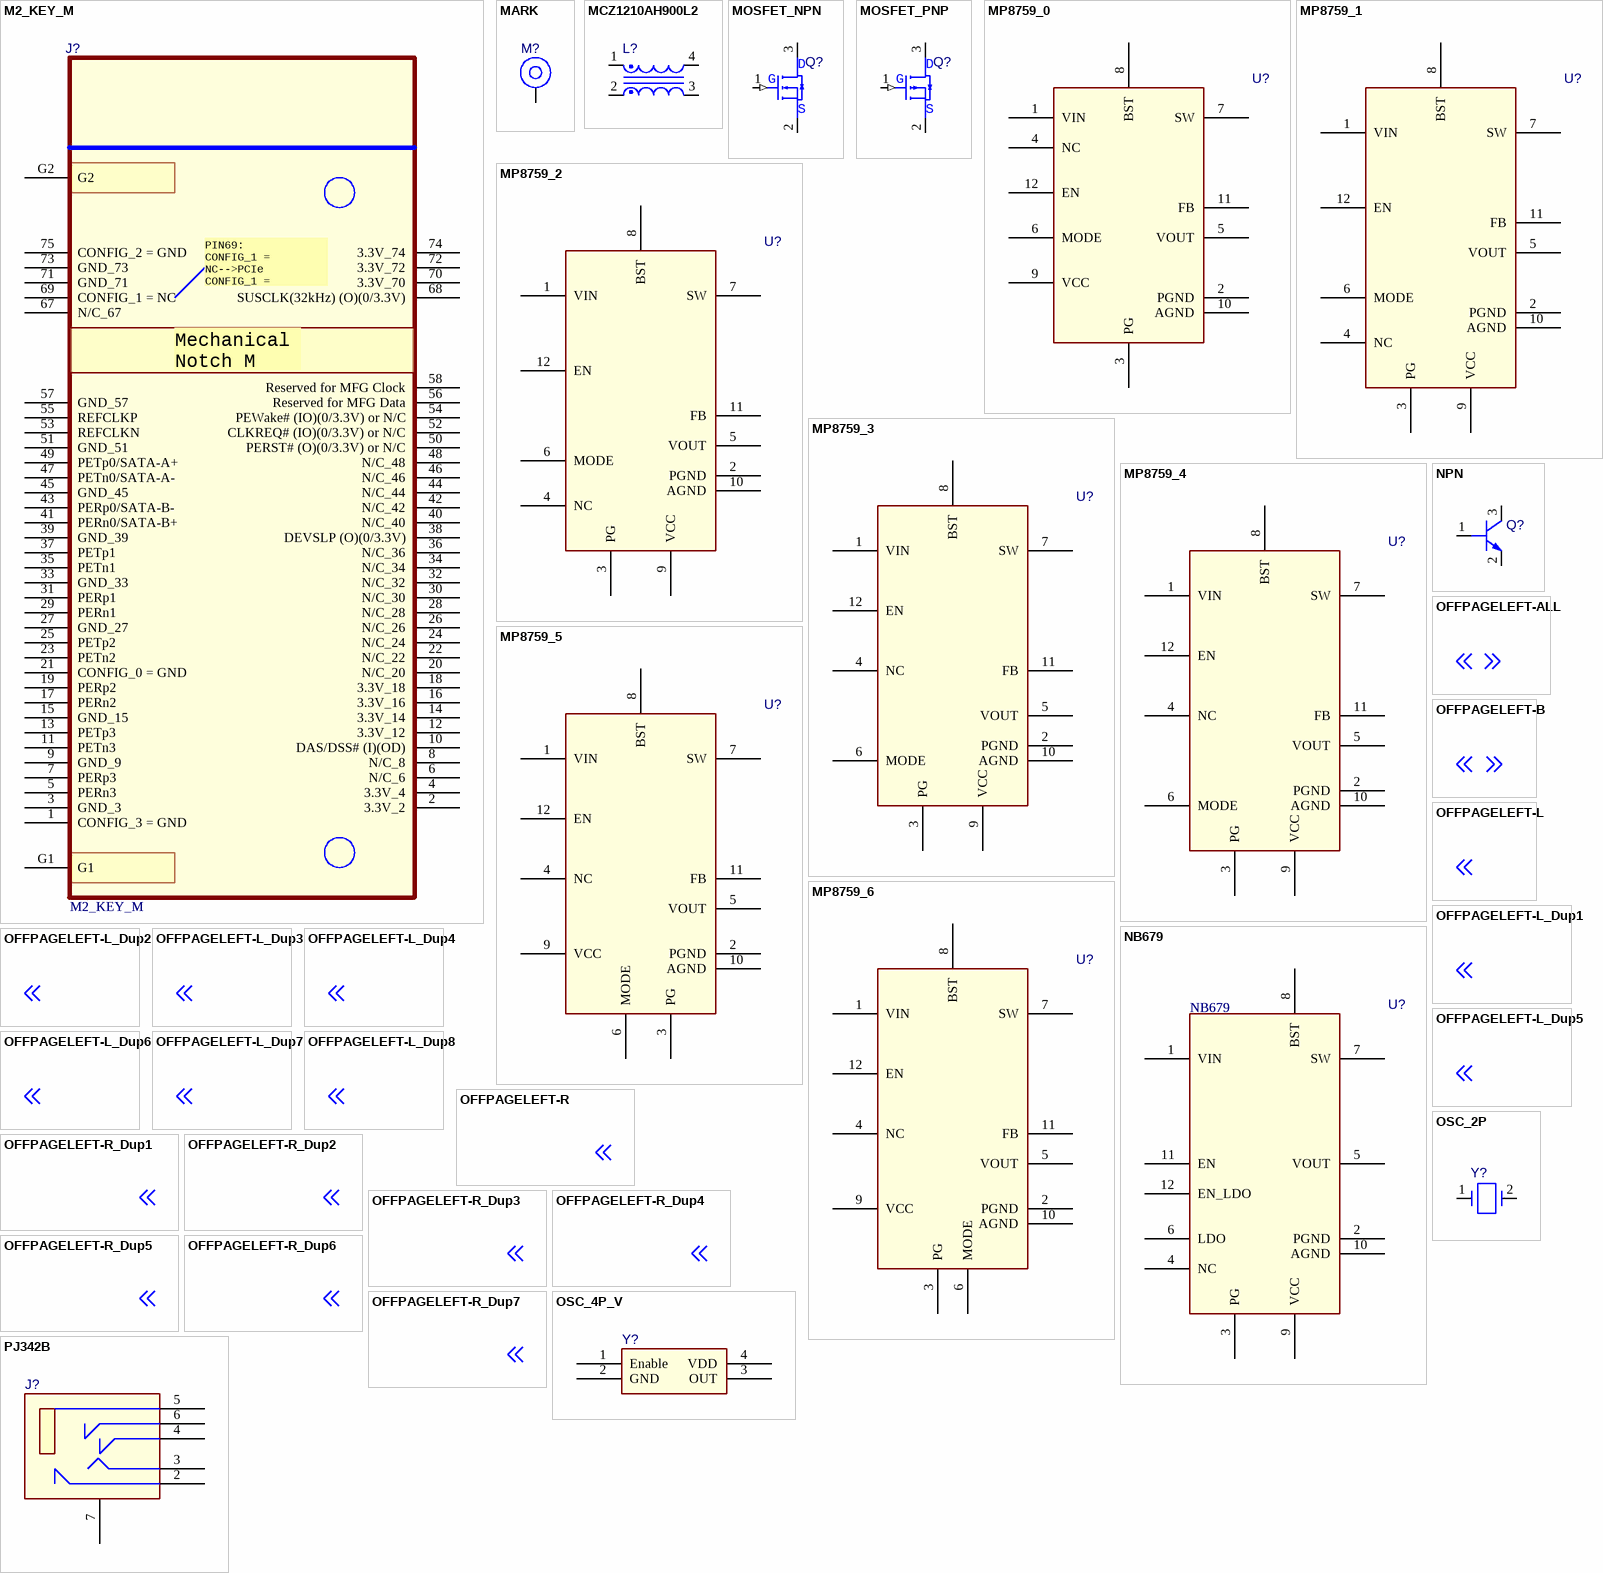
[diagram p6: symbols M2_KEY_M to PJ342B]

## M2_KEY_M
designator J?
Parameter: 连接器-比派-封装 M2_KEY_M; Value: M2_KEY_M
footprint M2-M_KEY_SM_75_0D5
pins: 1 CONFIG_3 = GND, 2 3.3V_2, 3 GND_3, 4 3.3V_4, 5 PERn3, 6 N/C_6, 7 PERp3, 8 N/C_8, 9 GND_9, 10 DAS/DSS# (I)(OD), 11 PETn3, 12 3.3V_12, 13 PETp3, 14 3.3V_14, 15 GND_15, 16 3.3V_16, 17 PERn2, 18 3.3V_18, 19 PERp2, 20 N/C_20, 21 CONFIG_0 = GND, 22 N/C_22, 23 PETn2, 24 N/C_24, 25 PETp2, 26 N/C_26, 27 GND_27, 28 N/C_28, 29 PERn1, 30 N/C_30, 31 PERp1, 32 N/C_32, 33 GND_33, 34 N/C_34, 35 PETn1, 36 N/C_36, 37 PETp1, 38 DEVSLP (O)(0/3.3V), 39 GND_39, 40 N/C_40, 41 PERn0/SATA-B+, 42 N/C_42, 43 PERp0/SATA-B-, 44 N/C_44, 45 GND_45, 46 N/C_46, 47 PETn0/SATA-A-, 48 N/C_48, 49 PETp0/SATA-A+, 50 PERST# (O)(0/3.3V) or N/C, 51 GND_51, 52 CLKREQ# (IO)(0/3.3V) or N/C, 53 REFCLKN, 54 PEWake# (IO)(0/3.3V) or N/C, 55 REFCLKP, 56 Reserved for MFG Data, 57 GND_57, 58 Reserved for MFG Clock, 67 N/C_67, 68 SUSCLK(32kHz) (O)(0/3.3V), 69 CONFIG_1 = NC, 70 3.3V_70, 71 GND_71, 72 3.3V_72, 73 GND_73, 74 3.3V_74, 75 CONFIG_2 = GND, G1, G2
text: PIN69: / CONFIG_1 = NC-->PCIe / CONFIG_1 = / GND-->SATA; Mechanical / Notch M

## MARK
designator M?
pins: 1

## MCZ1210AH900L2
designator L?
footprint LC1210
pins: 1, 2, 3, 4

## MOSFET_NPN
designator Q?
pins: 1 G (in), 2 S, 3 D

## MOSFET_PNP
designator Q?
pins: 1 G (in), 2 S, 3 D

## MP8759_0
designator U?
footprint QFN12_2R00X3R00X1R00
pins: 1 VIN, 2 PGND, 3 PG, 4 NC, 5 VOUT, 6 MODE, 7 SW, 8 BST, 9 VCC, 10 AGND, 11 FB, 12 EN

## MP8759_1
designator U?
footprint QFN12_2R00X3R00X1R00
pins: 1 VIN, 2 PGND, 3 PG, 4 NC, 5 VOUT, 6 MODE, 7 SW, 8 BST, 9 VCC, 10 AGND, 11 FB, 12 EN

## MP8759_2
designator U?
footprint QFN12_2R00X3R00X1R00
pins: 1 VIN, 2 PGND, 3 PG, 4 NC, 5 VOUT, 6 MODE, 7 SW, 8 BST, 9 VCC, 10 AGND, 11 FB, 12 EN

## MP8759_3
designator U?
footprint QFN12_2R00X3R00X1R00
pins: 1 VIN, 2 PGND, 3 PG, 4 NC, 5 VOUT, 6 MODE, 7 SW, 8 BST, 9 VCC, 10 AGND, 11 FB, 12 EN

## MP8759_4
designator U?
footprint QFN12_2R00X3R00X1R00
pins: 1 VIN, 2 PGND, 3 PG, 4 NC, 5 VOUT, 6 MODE, 7 SW, 8 BST, 9 VCC, 10 AGND, 11 FB, 12 EN

## MP8759_5
designator U?
footprint QFN12_2R00X3R00X1R00
pins: 1 VIN, 2 PGND, 3 PG, 4 NC, 5 VOUT, 6 MODE, 7 SW, 8 BST, 9 VCC, 10 AGND, 11 FB, 12 EN

## MP8759_6
designator U?
footprint QFN12_2R00X3R00X1R00
pins: 1 VIN, 2 PGND, 3 PG, 4 NC, 5 VOUT, 6 MODE, 7 SW, 8 BST, 9 VCC, 10 AGND, 11 FB, 12 EN

## NB679
designator U?
Value: NB679
footprint QFN12_0D5_2
pins: 1 VIN, 2 PGND, 3 PG, 4 NC, 5 VOUT, 6 LDO, 7 SW, 8 BST, 9 VCC, 10 AGND, 11 EN, 12 EN_LDO

## NPN
designator Q?
pins: 1 BASE, 2 EMITTER, 3 COLLECTOR

## OFFPAGELEFT-ALL
designator *  (value not drawn)  (graphical)
pins: $PIN0 (in) hidden

## OFFPAGELEFT-B
designator *  (value not drawn)  (graphical)
pins: $PIN0 (in) hidden

## OFFPAGELEFT-L
designator *  (value not drawn)  (graphical)
pins: $PIN0 (in) hidden

## OFFPAGELEFT-L_Dup1
designator *  (value not drawn)  (graphical)
pins: $PIN0 (in) hidden

## OFFPAGELEFT-L_Dup2
designator *  (value not drawn)  (graphical)
pins: $PIN0 (in) hidden

## OFFPAGELEFT-L_Dup3
designator *  (value not drawn)  (graphical)
pins: $PIN0 (in) hidden

## OFFPAGELEFT-L_Dup4
designator *  (value not drawn)  (graphical)
pins: $PIN0 (in) hidden

## OFFPAGELEFT-L_Dup5
designator *  (value not drawn)  (graphical)
pins: $PIN0 (in) hidden

## OFFPAGELEFT-L_Dup6
designator *  (value not drawn)  (graphical)
pins: $PIN0 (in) hidden

## OFFPAGELEFT-L_Dup7
designator *  (value not drawn)  (graphical)
pins: $PIN0 (in) hidden

## OFFPAGELEFT-L_Dup8
designator *  (value not drawn)  (graphical)
pins: $PIN0 (in) hidden

## OFFPAGELEFT-R
designator *  (value not drawn)  (graphical)
pins: $PIN0 (in) hidden

## OFFPAGELEFT-R_Dup1
designator *  (value not drawn)  (graphical)
pins: $PIN0 (in) hidden

## OFFPAGELEFT-R_Dup2
designator *  (value not drawn)  (graphical)
pins: $PIN0 (in) hidden

## OFFPAGELEFT-R_Dup3
designator *  (value not drawn)  (graphical)
pins: $PIN0 (in) hidden

## OFFPAGELEFT-R_Dup4
designator *  (value not drawn)  (graphical)
pins: $PIN0 (in) hidden

## OFFPAGELEFT-R_Dup5
designator *  (value not drawn)  (graphical)
pins: $PIN0 (in) hidden

## OFFPAGELEFT-R_Dup6
designator *  (value not drawn)  (graphical)
pins: $PIN0 (in) hidden

## OFFPAGELEFT-R_Dup7
designator *  (value not drawn)  (graphical)
pins: $PIN0 (in) hidden

## OSC_2P
designator Y?
pins: 1, 2

## OSC_4P_V
designator Y?
footprint Y-4-5_08-TXC-7W5
pins: 1 Enable, 2 GND, 3 OUT, 4 VDD

## PJ342B
designator J?
pins: 2 DH, 3 R, 4 L, 5 D, 6 HP, 7 NC2

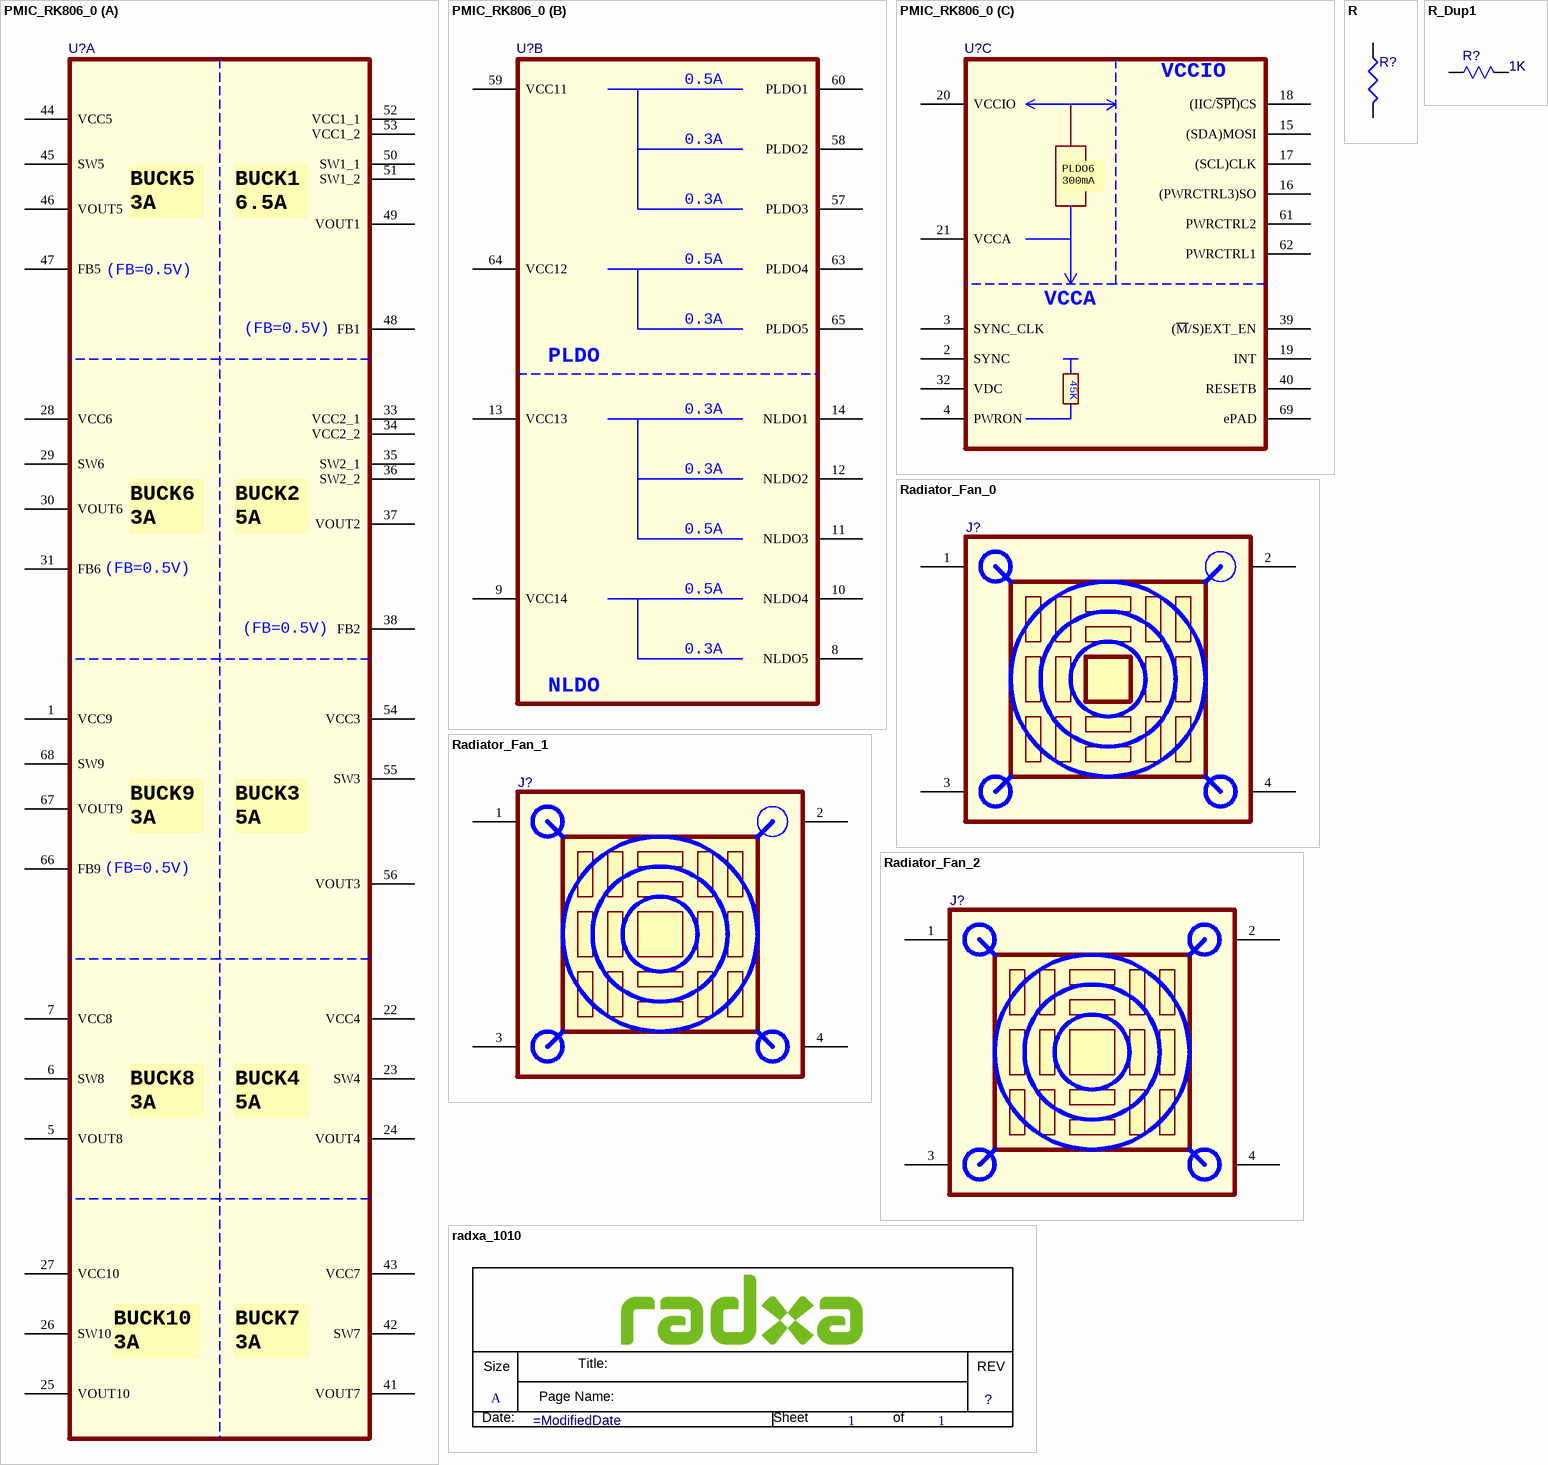
[diagram p7: symbols PMIC_RK806_0 to radxa_1010]

## PMIC_RK806_0
designator U?
footprint QFN68_7R00X7R00X0R80_T
part A pins: 1 VCC9, 5 VOUT8, 6 SW8, 7 VCC8, 22 VCC4, 23 SW4, 24 VOUT4, 25 VOUT10, 26 SW10, 27 VCC10, 28 VCC6, 29 SW6, 30 VOUT6, 31 FB6, 33 VCC2_1, 34 VCC2_2, 35 SW2_1, 36 SW2_2, 37 VOUT2, 38 FB2, 41 VOUT7, 42 SW7, 43 VCC7, 44 VCC5, 45 SW5, 46 VOUT5, 47 FB5, 48 FB1, 49 VOUT1, 50 SW1_1, 51 SW1_2, 52 VCC1_1, 53 VCC1_2, 54 VCC3, 55 SW3, 56 VOUT3, 66 FB9, 67 VOUT9, 68 SW9
part B pins: 8 NLDO5, 9 VCC14, 10 NLDO4, 11 NLDO3, 12 NLDO2, 13 VCC13, 14 NLDO1, 57 PLDO3, 58 PLDO2, 59 VCC11, 60 PLDO1, 63 PLDO4, 64 VCC12, 65 PLDO5
part C pins: 2 SYNC, 3 SYNC_CLK, 4 PWRON, 15 (SDA)MOSI, 16 (PWRCTRL3)SO, 17 (SCL)CLK, 18 (IIC/~{SPI})CS, 19 INT, 20 VCCIO, 21 VCCA, 32 VDC, 39 (~{M}/S)EXT_EN, 40 RESETB, 61 PWRCTRL2, 62 PWRCTRL1, 69 ePAD
part A text: BUCK5 / 3A; BUCK1 / 6.5A; (FB=0.5V); BUCK6 / 3A; BUCK2 / 5A; BUCK9 / 3A; BUCK3 / 5A; BUCK8 / 3A; BUCK4 / 5A; BUCK10 / 3A; BUCK7 / 3A
part B text: 0.5A; 0.3A; PLDO; NLDO
part C text: PLDO6 / 300mA; 45K

## R
designator R?
footprint R0402
pins: 1, 2

## R_Dup1
designator R?, comment 1K
PARTS: 1; LEVEL: STD; PKG_TYPE: 2; PINSWAP: (A,B); OriginalSymbolOrigin: (10,20); Value: 1K
pins: 1, 2

## Radiator_Fan_0
designator J?
pins: 1, 2, 3, 4

## Radiator_Fan_1
designator J?
pins: 1, 2, 3, 4

## Radiator_Fan_2
designator J?
pins: 1, 2, 3, 4

## radxa_1010
designator *  Page Size: A  Page Number: 1  (hidden comment: *)  (graphical)
Page Create Date: March  8, 1995; RevCode: ?; Page Count: 1; Page Modify Date: =ModifiedDate
text: Title:; Size; REV; Page Name:; Date:; Sheet; of

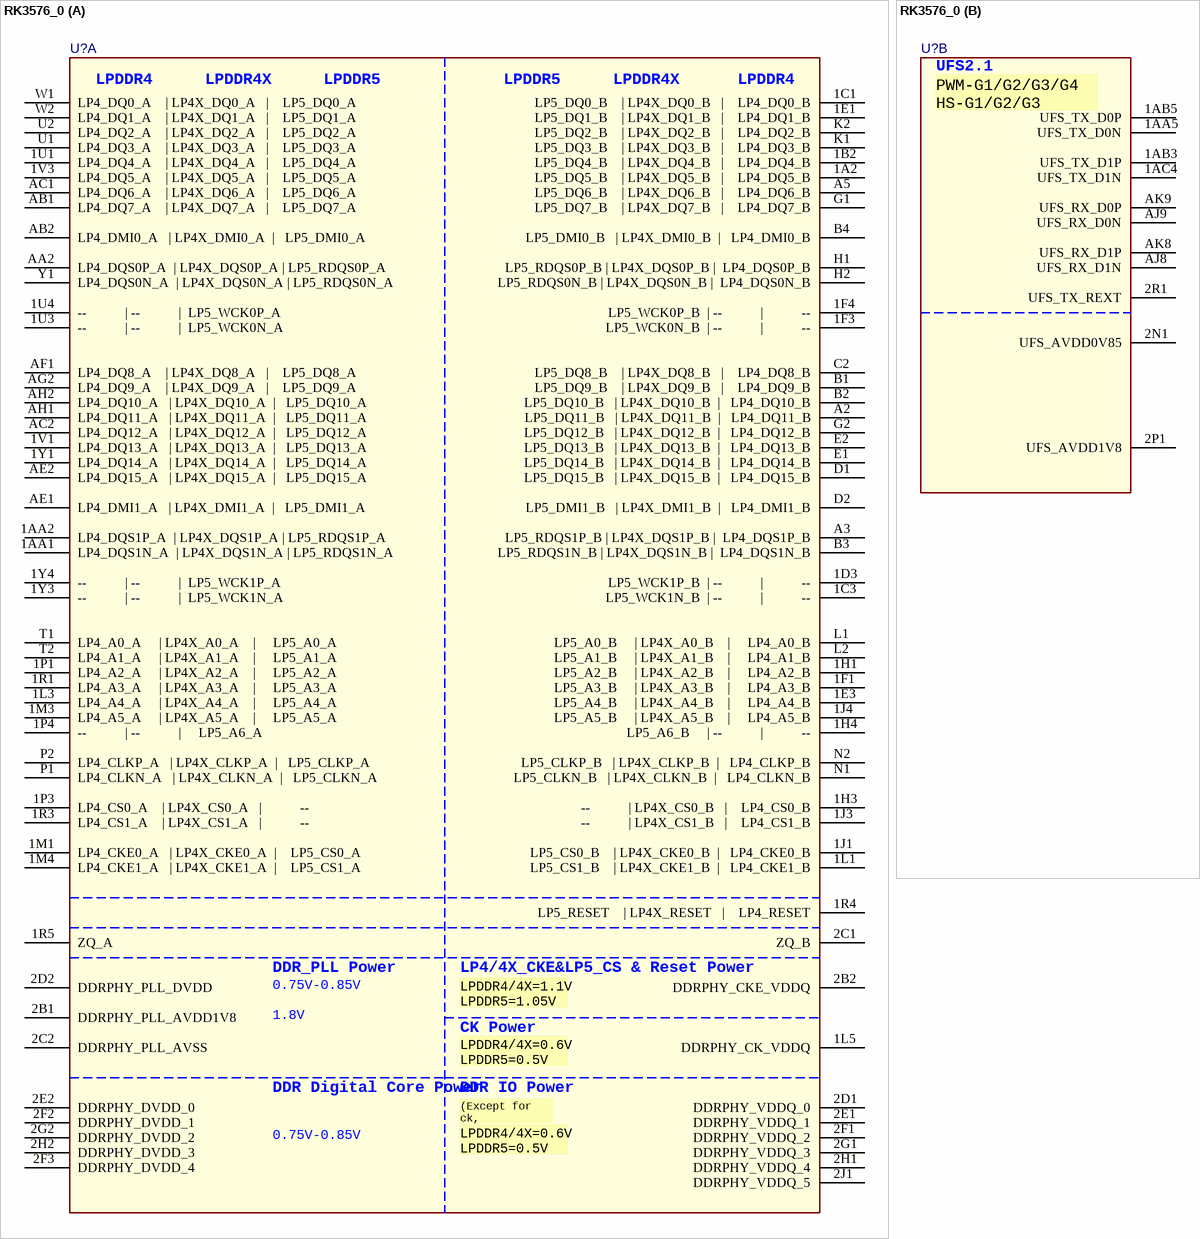
[diagram p8: symbol RK3576_0]

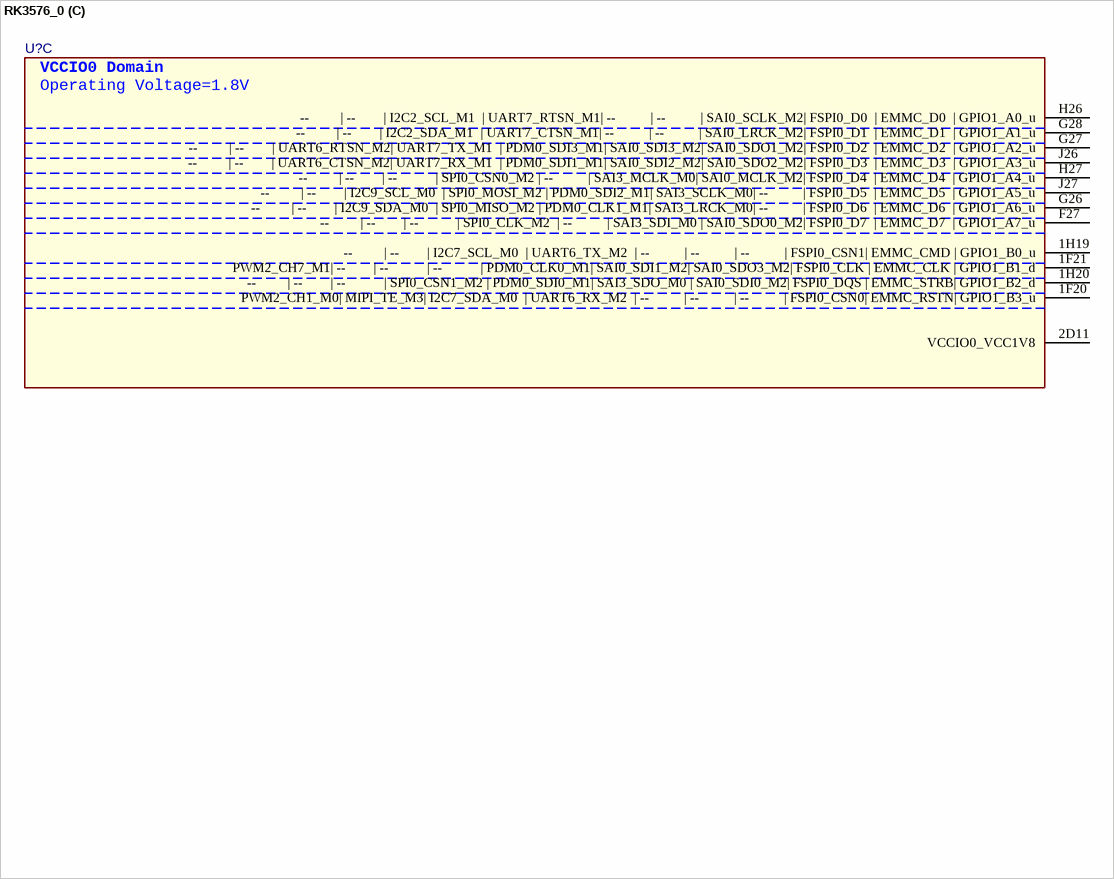
[diagram p9: symbol RK3576_0]

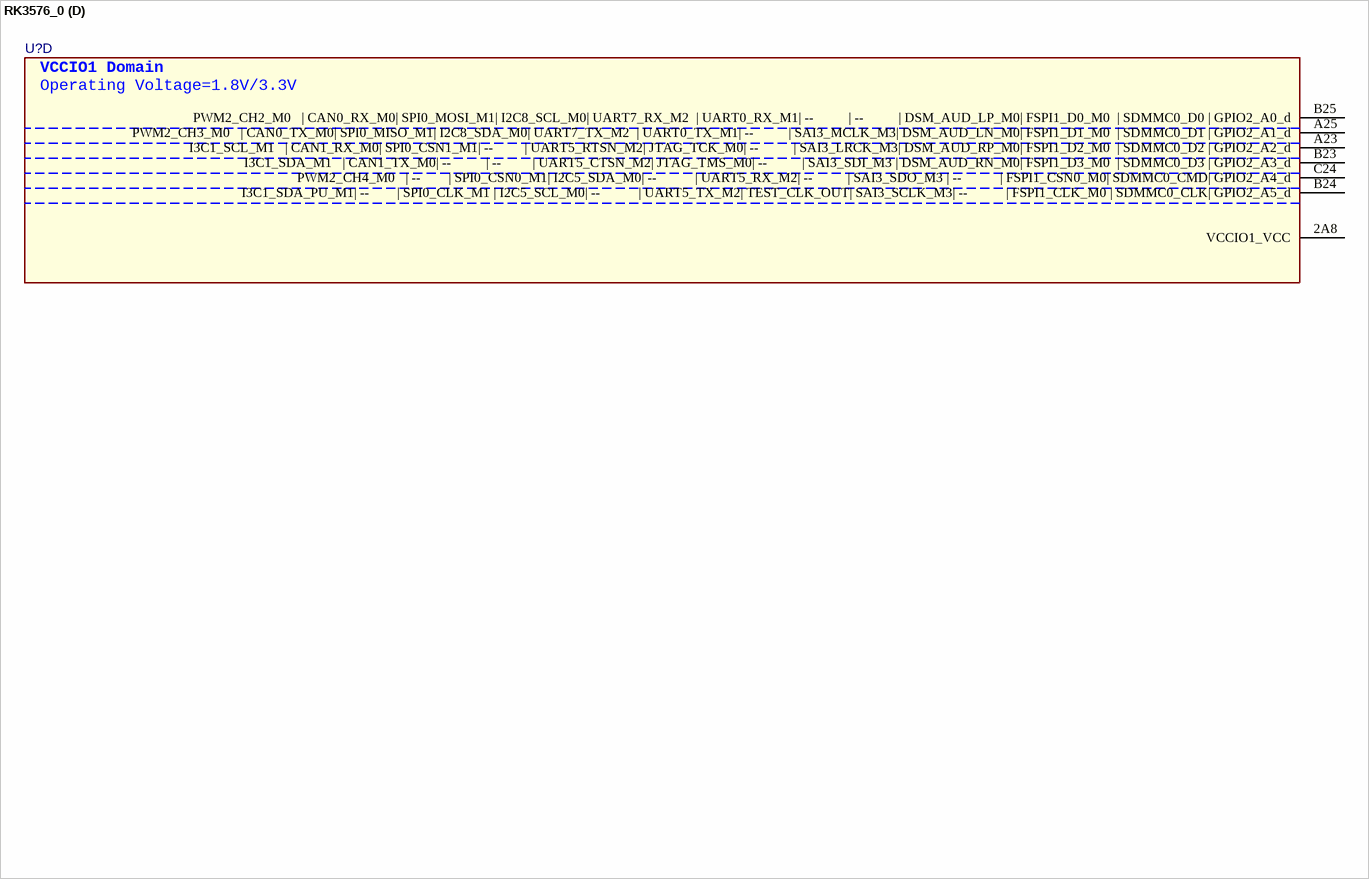
[diagram p10: symbol RK3576_0]

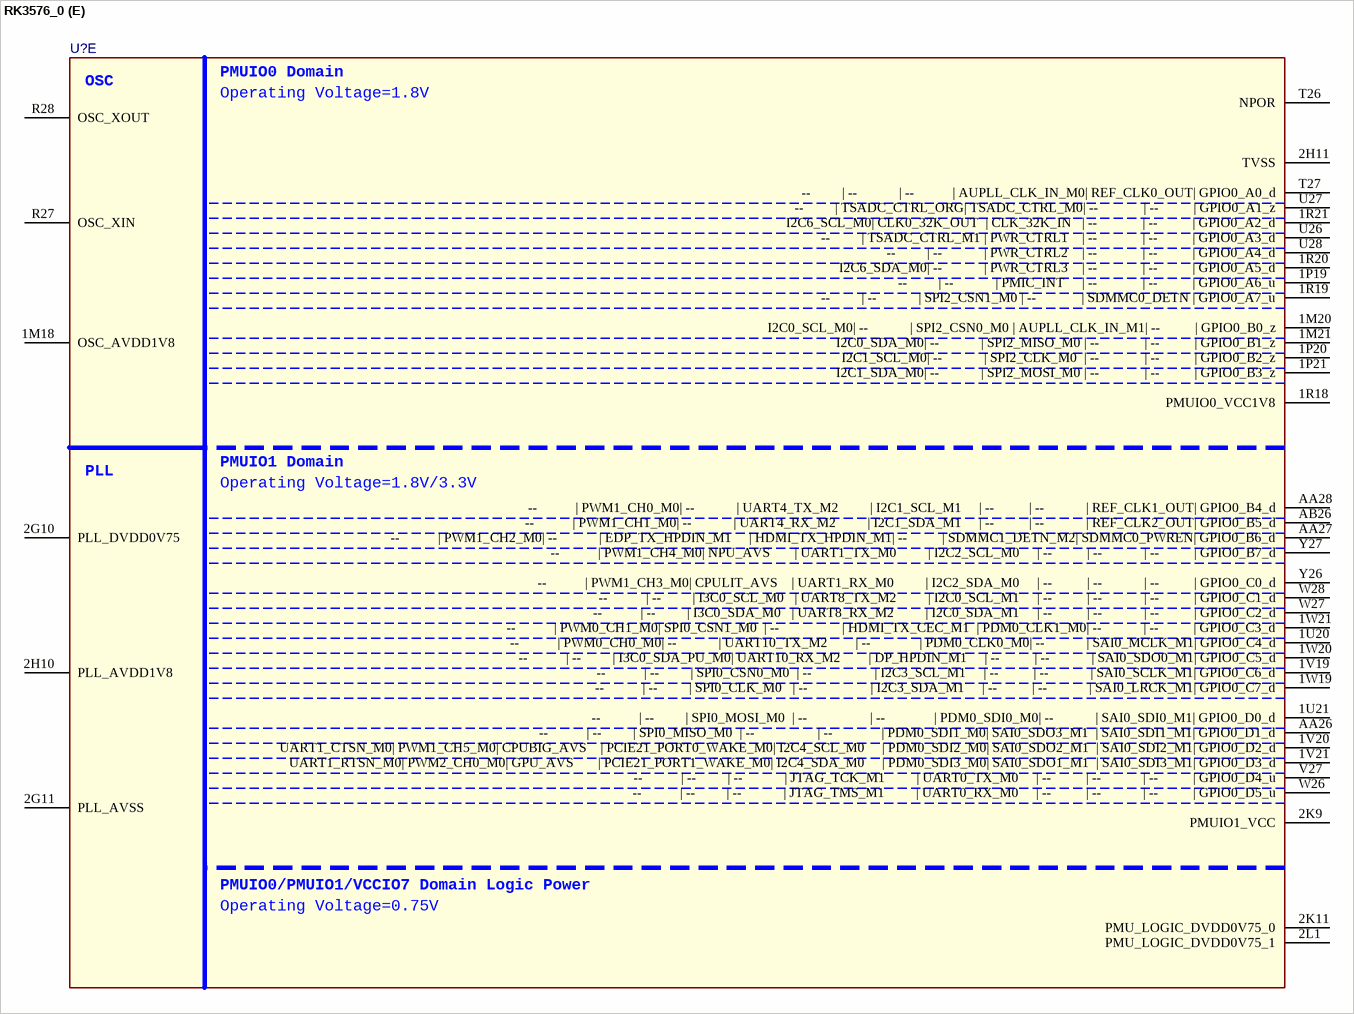
[diagram p11: symbol RK3576_0]

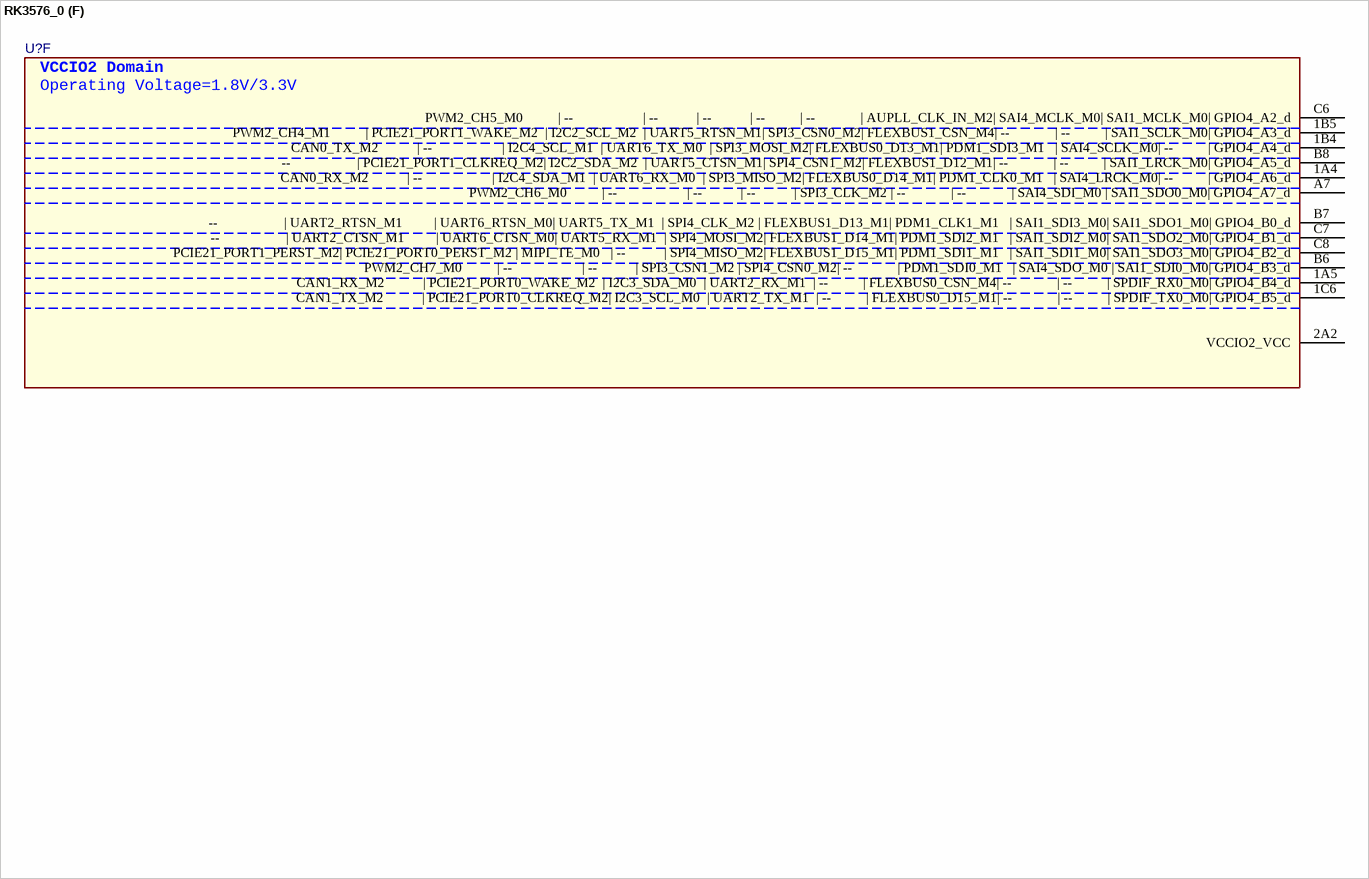
[diagram p12: symbol RK3576_0]

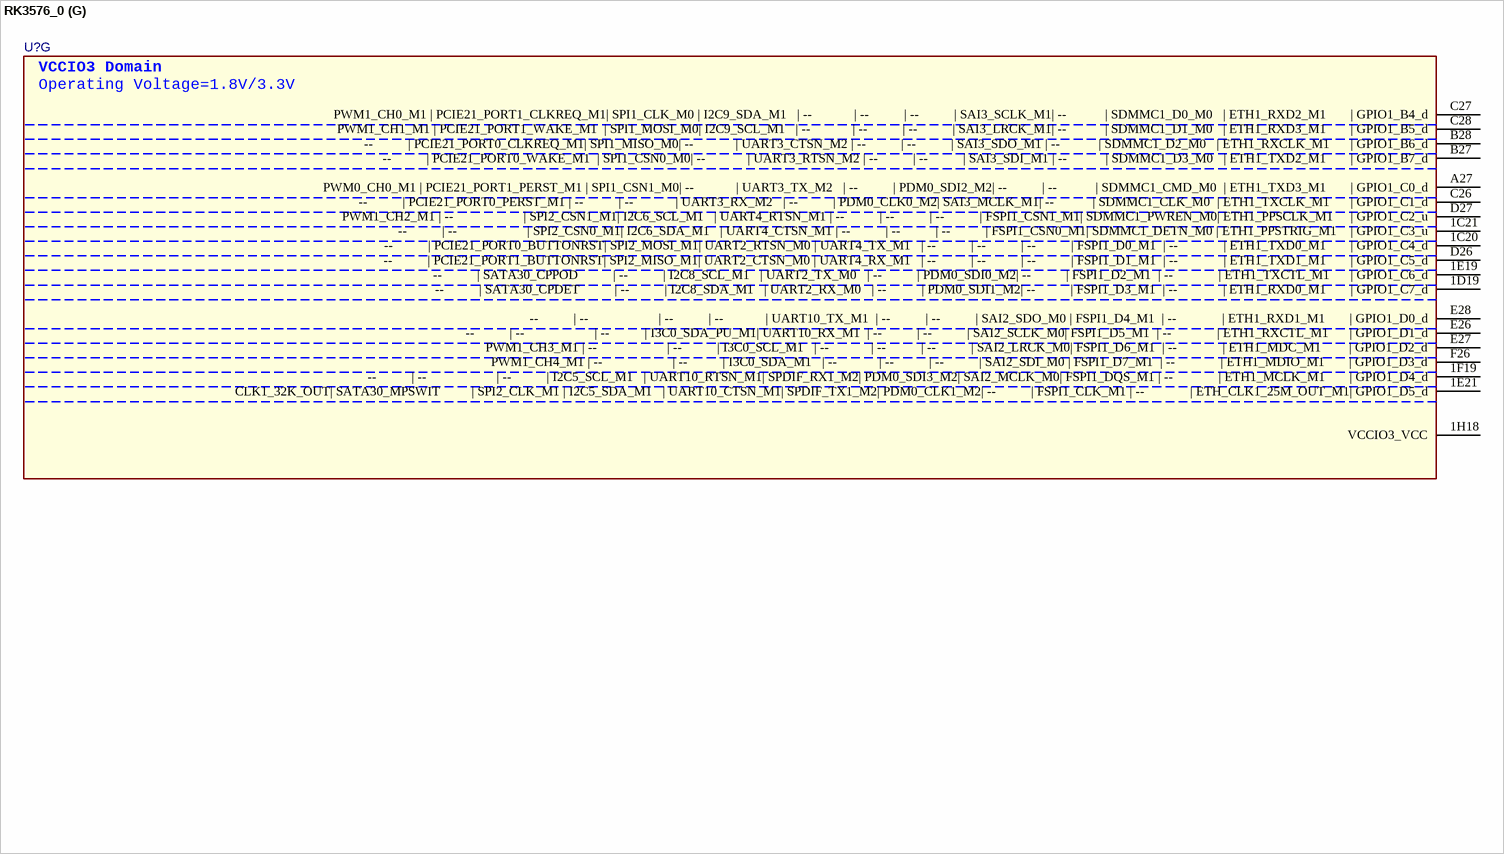
[diagram p13: symbol RK3576_0]

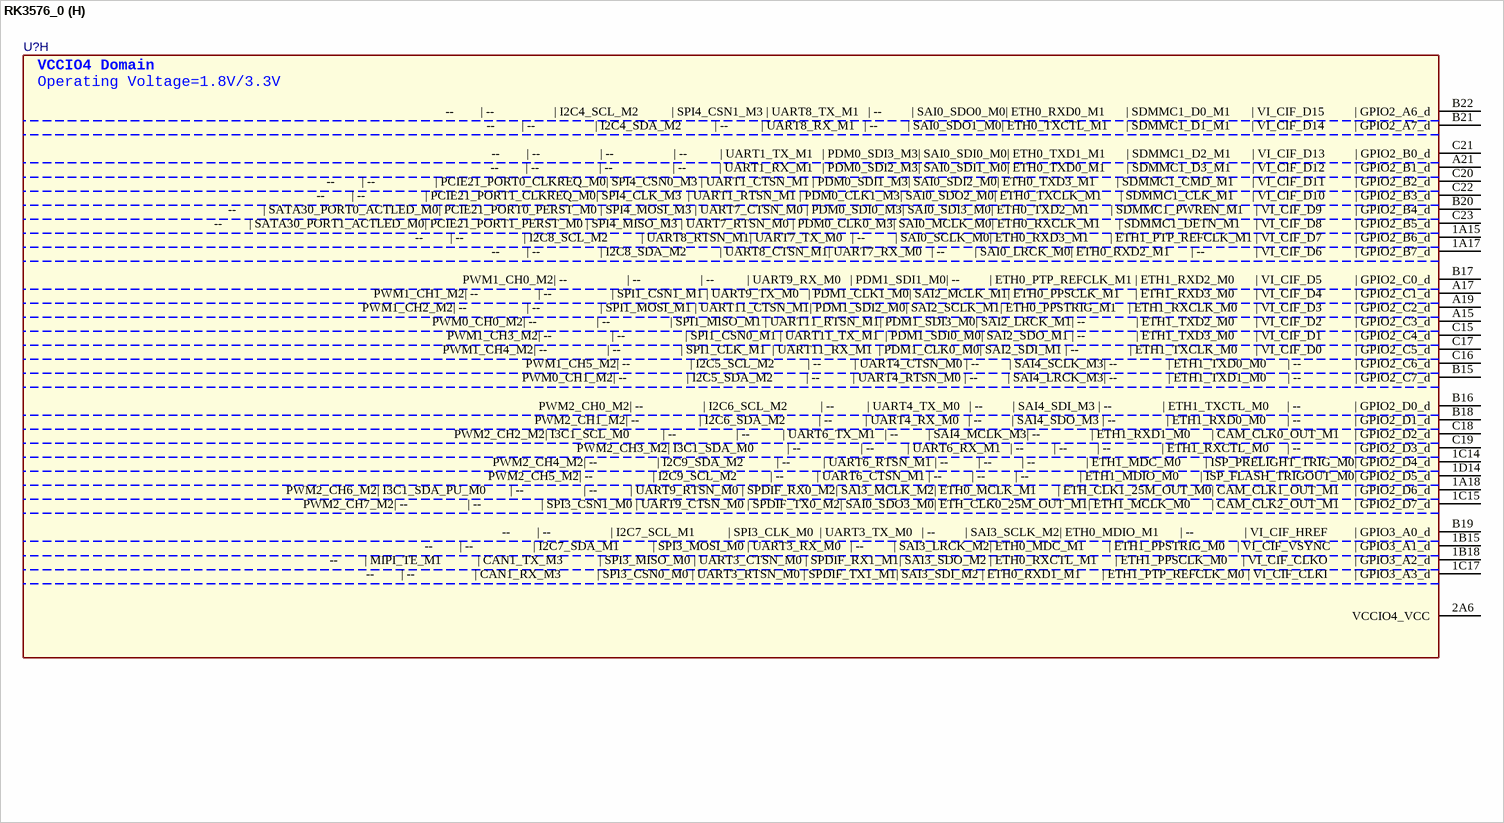
[diagram p14: symbol RK3576_0]

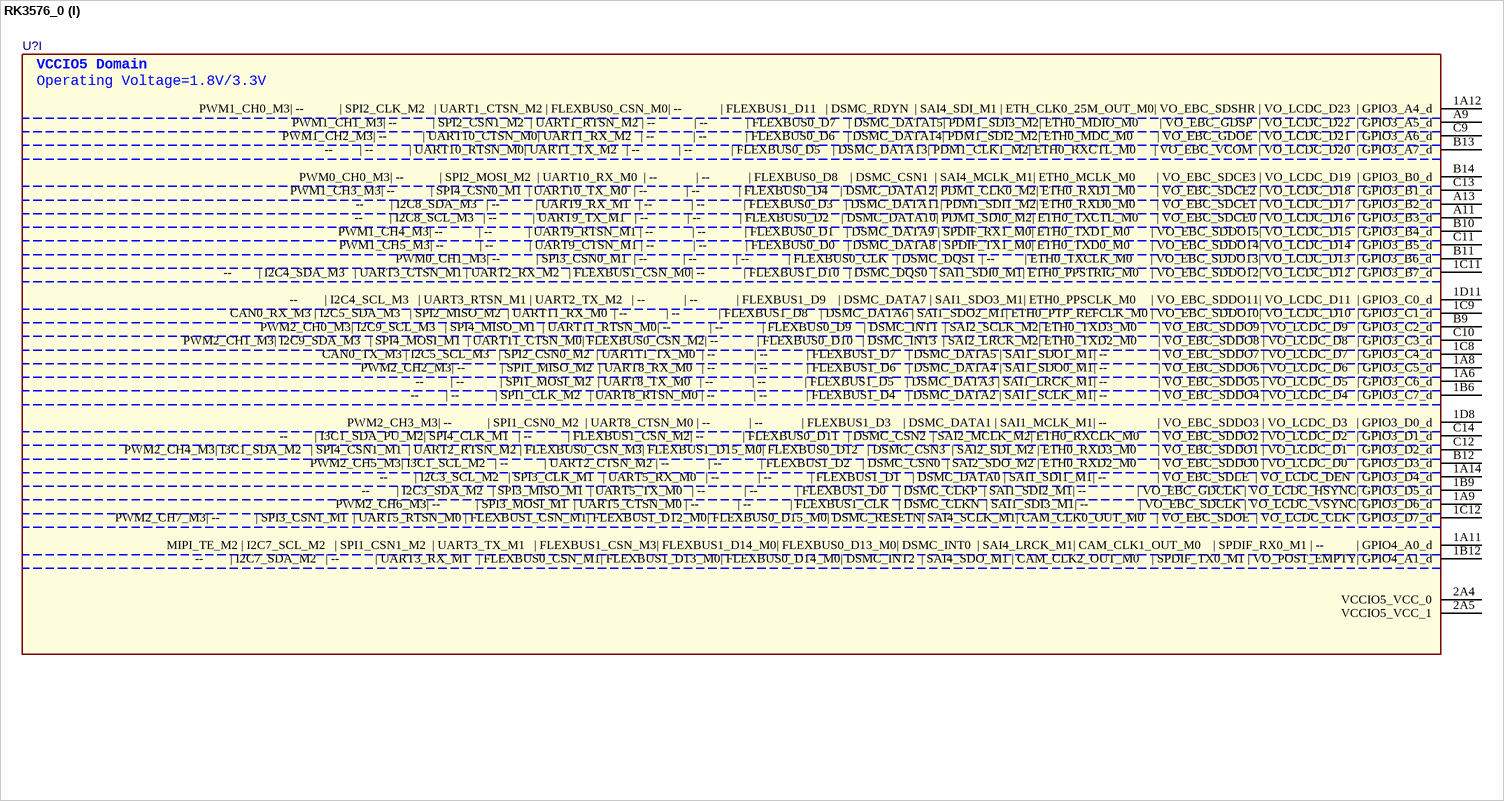
[diagram p15: symbol RK3576_0]

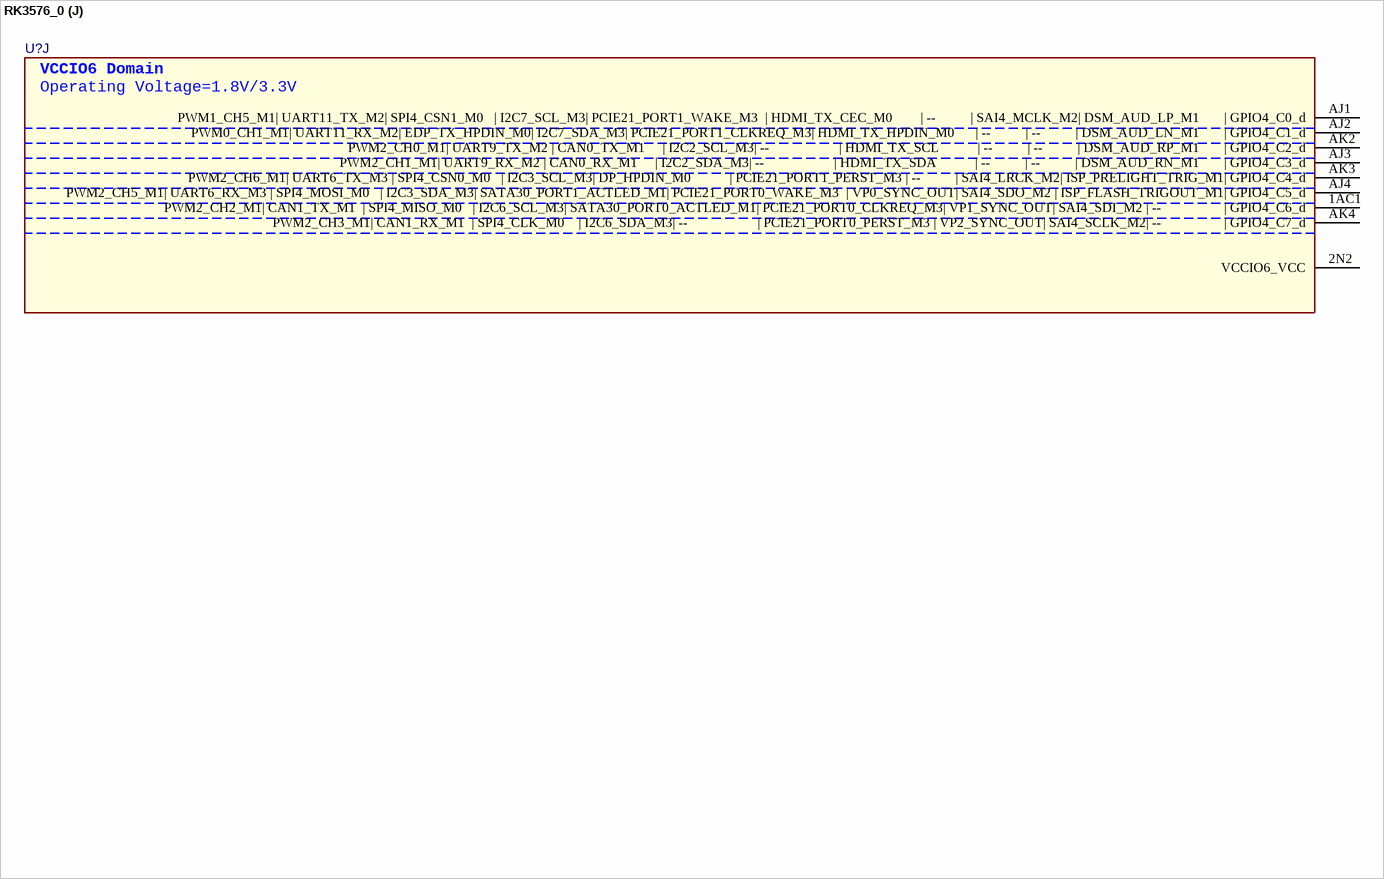
[diagram p16: symbol RK3576_0]

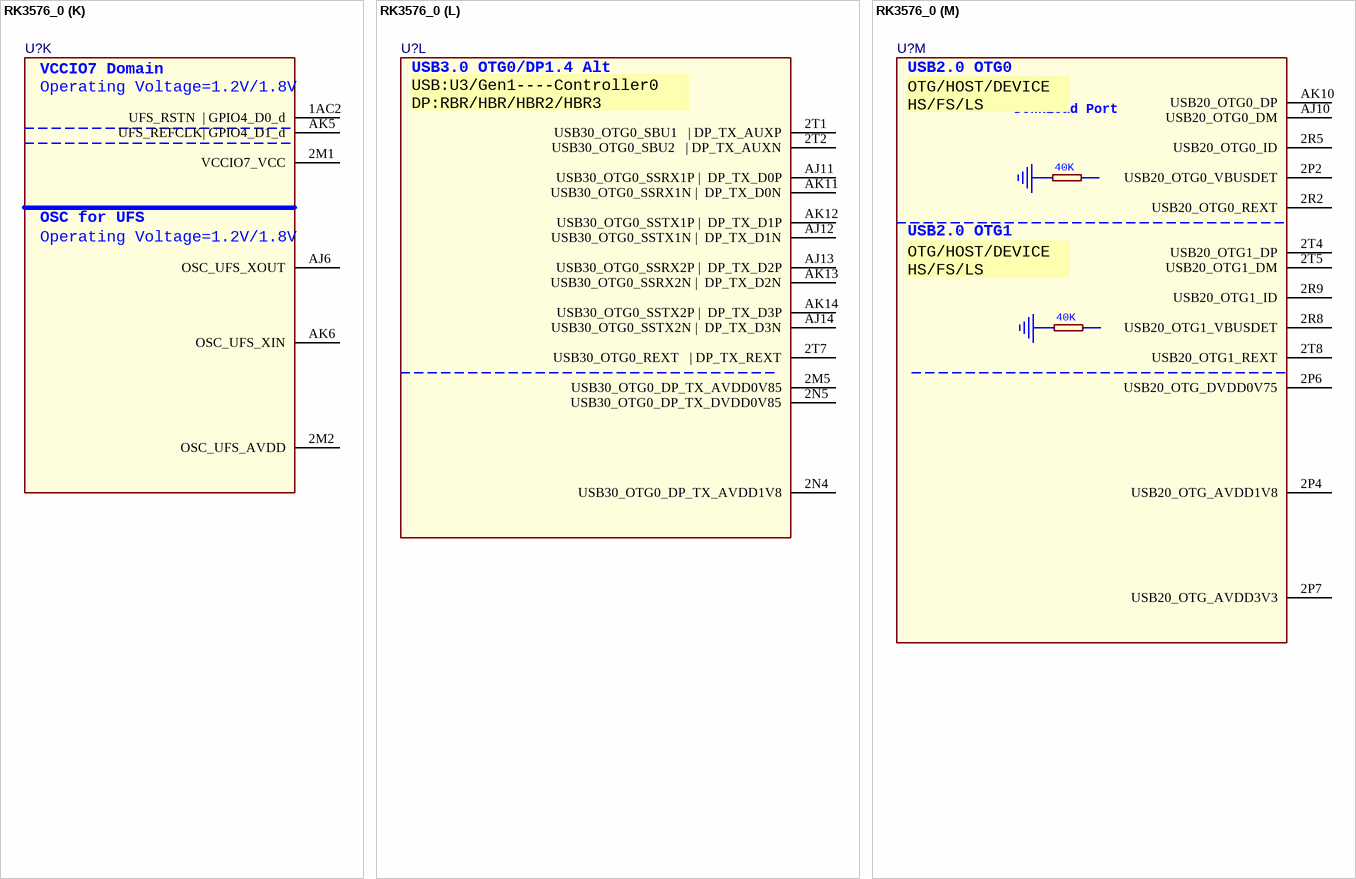
[diagram p17: symbol RK3576_0]

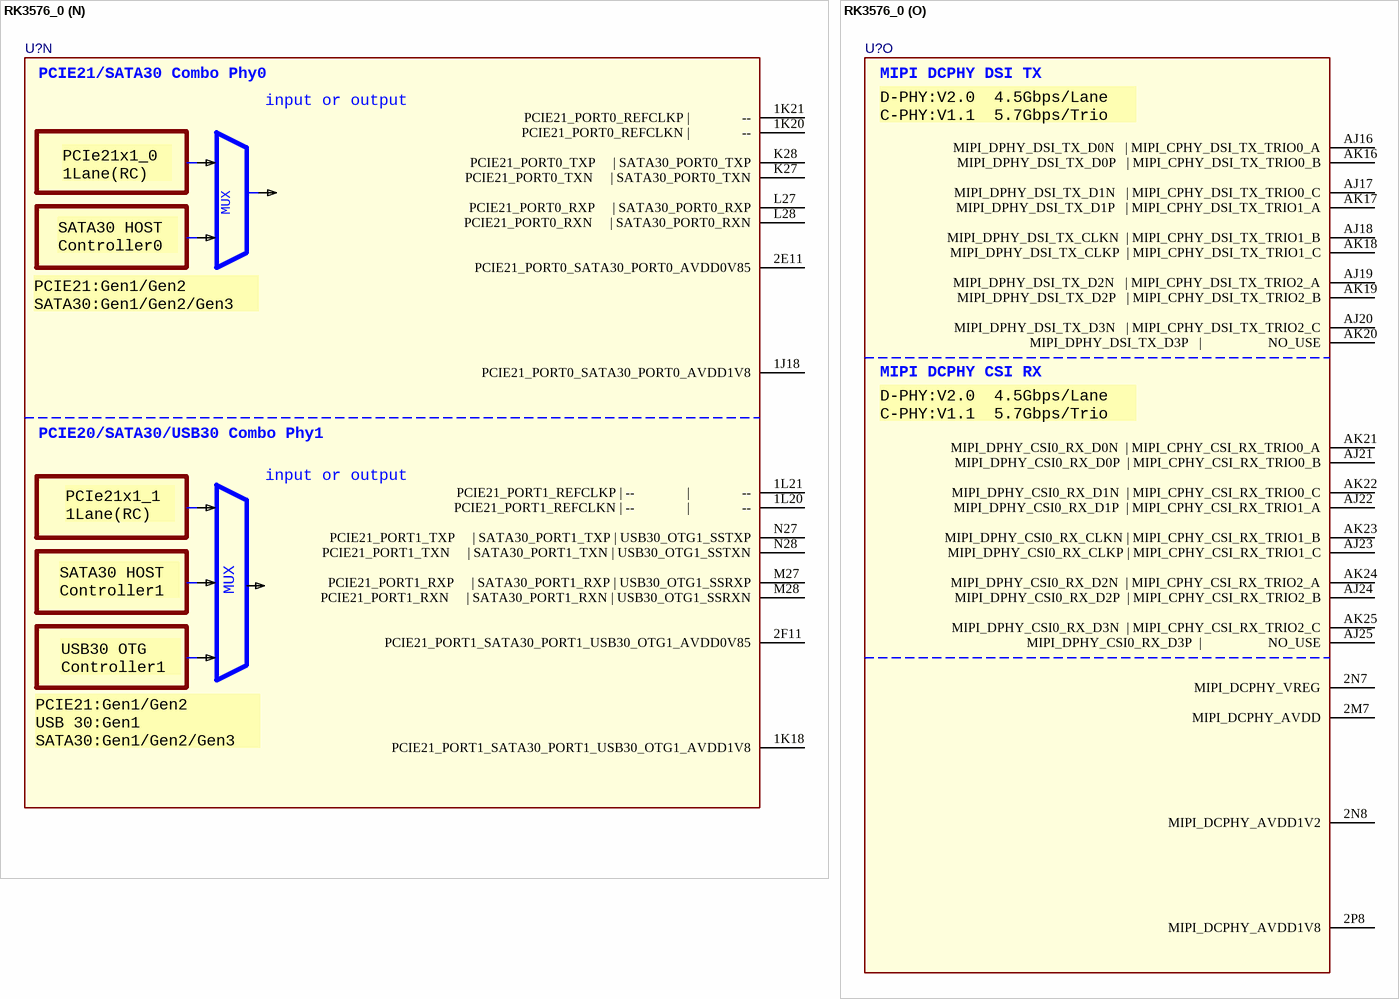
[diagram p18: symbol RK3576_0]

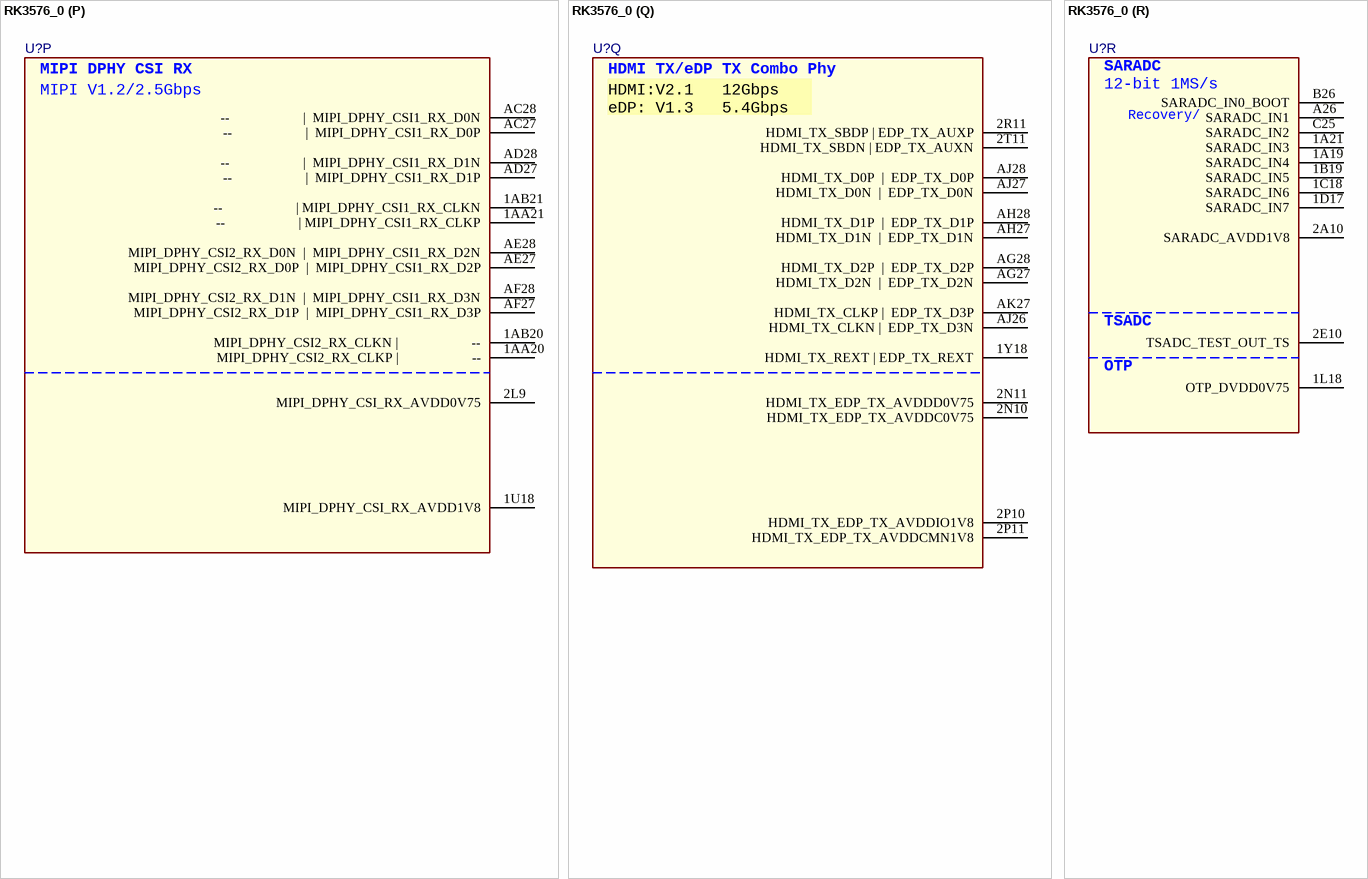
[diagram p19: symbol RK3576_0]

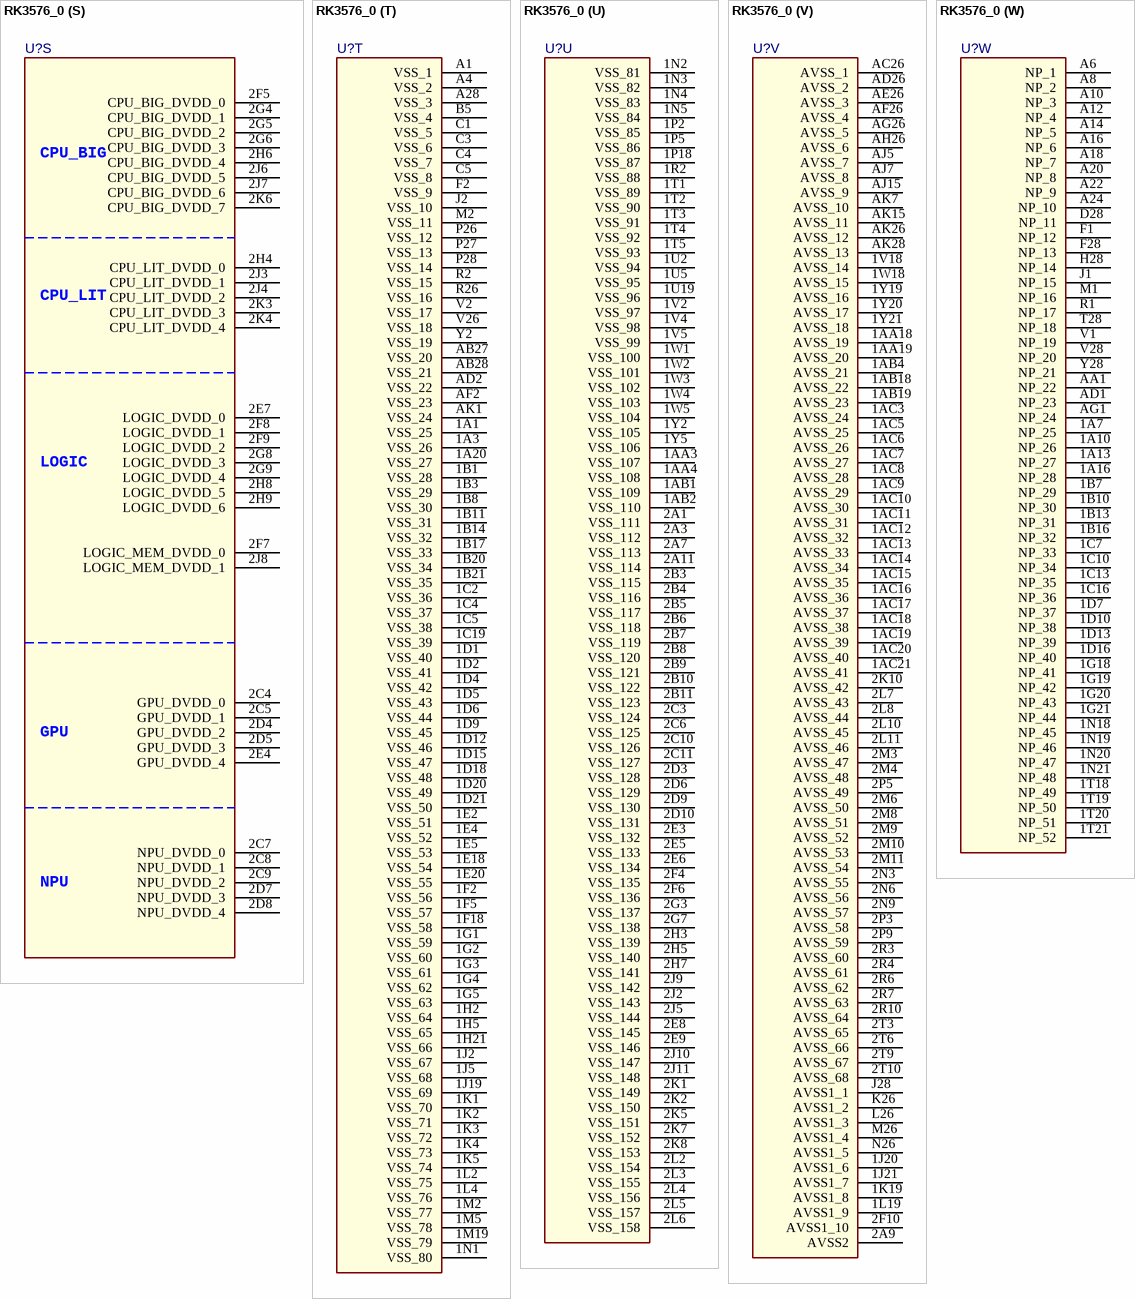
[diagram p20: symbol RK3576_0]